# Altium integrated library Altera MAX 3000A.IntLib: 136 symbols (part 3 of 9)
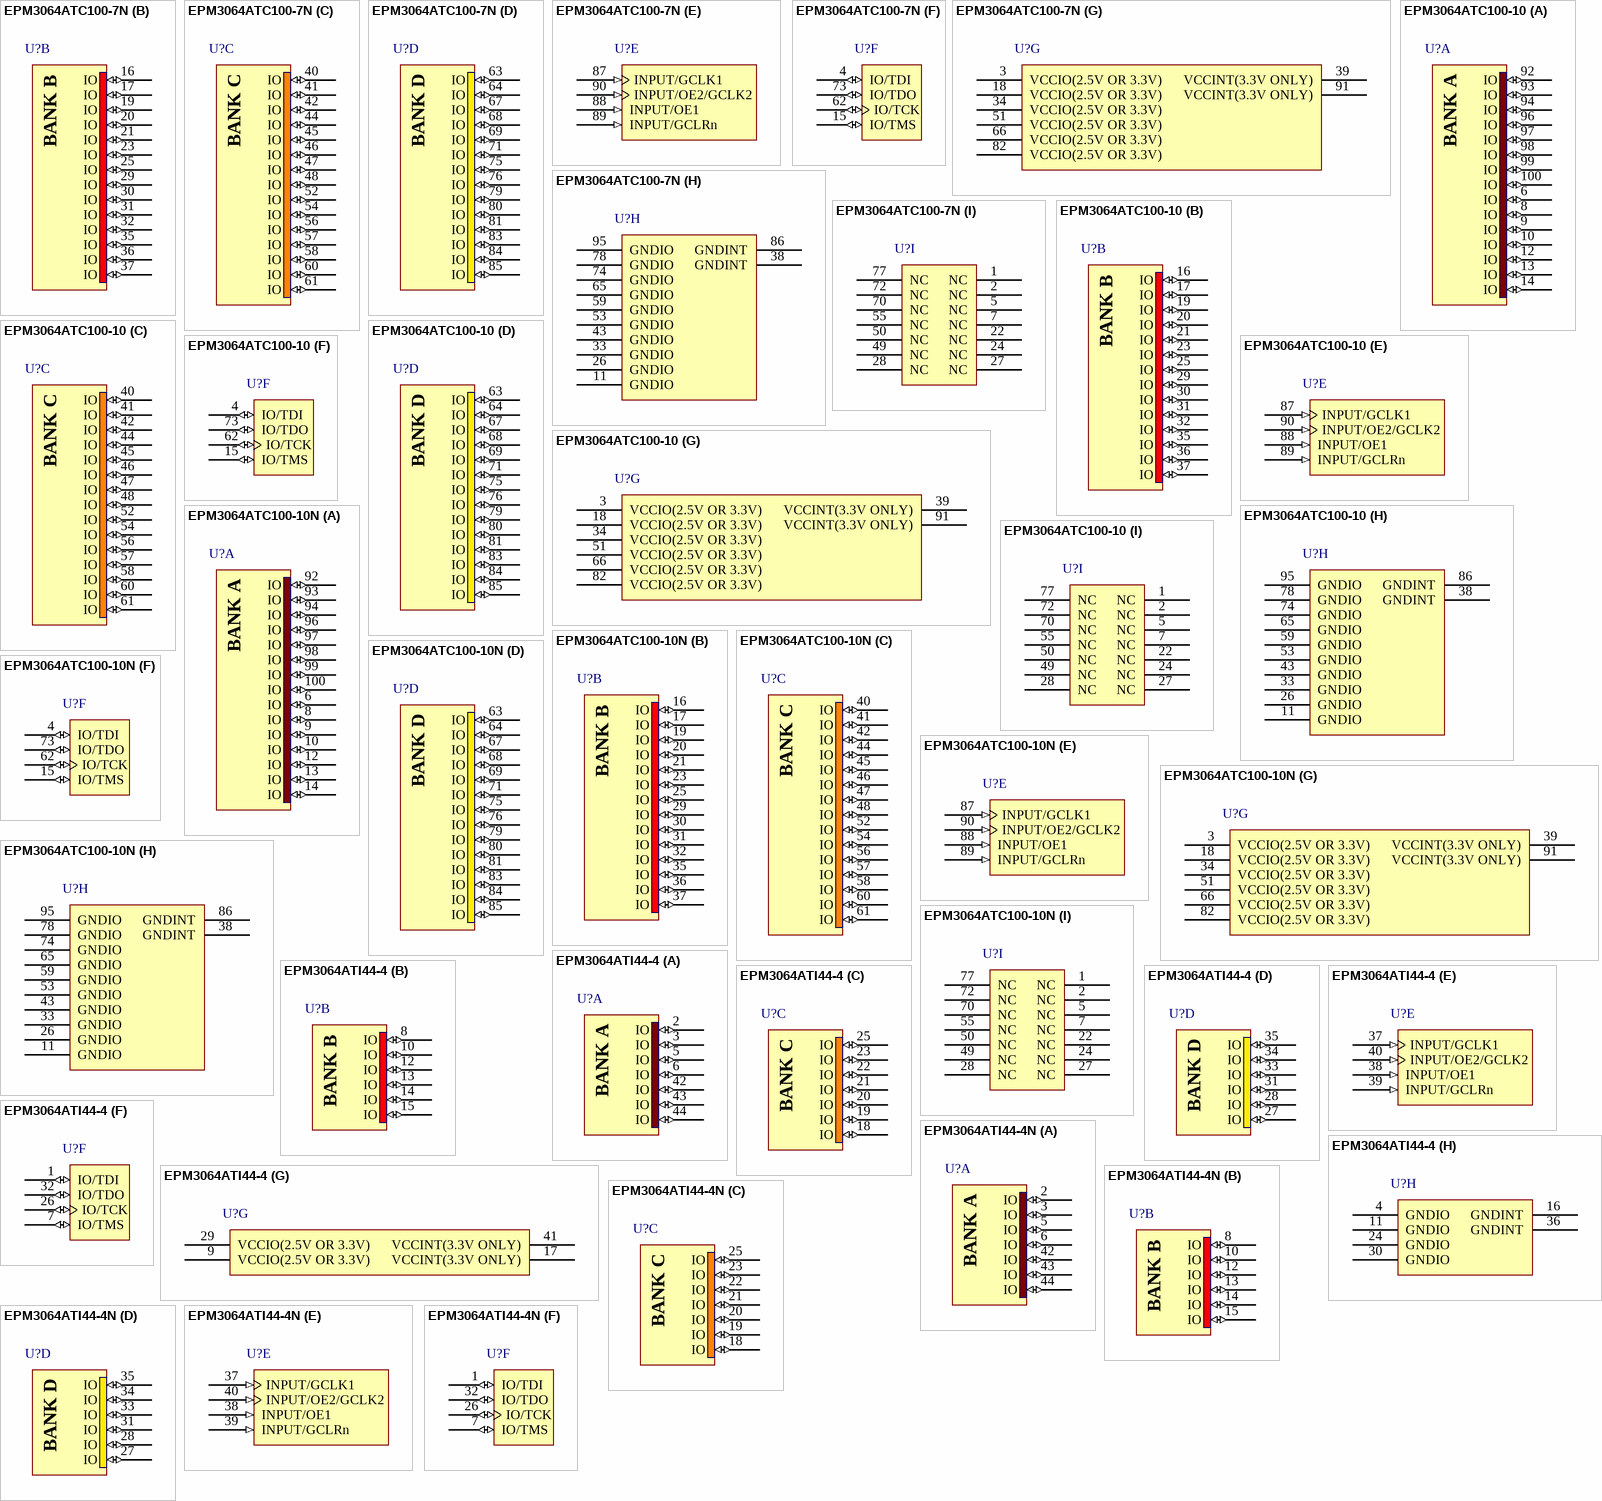
[diagram p49: symbols EPM3064ATC100-7N to EPM3064ATI44-4N]

## EPM3064ATC100-10N
designator U?
MAX 3064A 3.3V CPLD, 66 IOs, 100-Pin Plastic TQFP, Commercial Temperature, Speed Grade 10, Pb-Free; Published: 4-Mar-2005; LatestRevisionDate: 13-Apr-2006; LatestRevisionNote: IPC-7351 Footprint Added.; DatasheetVersion: ver3.5, Jun-2006; PackageVersion: ver14.3, Jul-2006; PackageReference: TQFP100; Publisher: Altium Limited; PackageDescription: 100-Pin Plastic Thin Quad Flat Pack (TQFP100); Code_JEDEC: MS-026-AED; ComponentLink1Description: Manufacturer Link; ComponentLink1URL: http://www.altera.com/products/devices/max3k/m3k-index.html; ComponentLink2Description: Datasheet; ComponentLink2URL: http://www.altera.com/literature/ds/m3000a.pdf; ComponentLink3Description: Packaging Specification; ComponentLink3URL: http://www.altera.com/literature/ds/dspkg.pdf
footprint TQFP100_N (Thin QFP, 100-Leads, Body 14x14mm, Pitch 0.5mm, IPC Medium Density)
footprint TQFP100_L (Thin QFP, 100-Leads, Body 14x14mm, Pitch 0.5mm, IPC High Density)
footprint TQFP100_M (Thin QFP, 100-Leads, Body 14x14mm, Pitch 0.5mm, IPC Low Density)
3D model EPM3064A-TQFP100 (100-Pin Plastic Thin Quad Flat Pack (TQFP100))
signal-integrity model max3ka (MAX 3000A)
part A pins: 6 IO (io), 8 IO (io), 9 IO (io), 10 IO (io), 12 IO (io), 13 IO (io), 14 IO (io), 92 IO (io), 93 IO (io), 94 IO (io), 96 IO (io), 97 IO (io), 98 IO (io), 99 IO (io), 100 IO (io)
part B pins: 16 IO (io), 17 IO (io), 19 IO (io), 20 IO (io), 21 IO (io), 23 IO (io), 25 IO (io), 29 IO (io), 30 IO (io), 31 IO (io), 32 IO (io), 35 IO (io), 36 IO (io), 37 IO (io)
part C pins: 40 IO (io), 41 IO (io), 42 IO (io), 44 IO (io), 45 IO (io), 46 IO (io), 47 IO (io), 48 IO (io), 52 IO (io), 54 IO (io), 56 IO (io), 57 IO (io), 58 IO (io), 60 IO (io), 61 IO (io)
part D pins: 63 IO (io), 64 IO (io), 67 IO (io), 68 IO (io), 69 IO (io), 71 IO (io), 75 IO (io), 76 IO (io), 79 IO (io), 80 IO (io), 81 IO (io), 83 IO (io), 84 IO (io), 85 IO (io)
part E pins: 87 INPUT/GCLK1 (in), 88 INPUT/OE1 (in), 89 INPUT/GCLRn (in), 90 INPUT/OE2/GCLK2 (in)
part F pins: 4 IO/TDI (io), 15 IO/TMS (io), 62 IO/TCK (io), 73 IO/TDO (io)
part G pins: 3 VCCIO(2.5V OR 3.3V) (power), 18 VCCIO(2.5V OR 3.3V) (power), 34 VCCIO(2.5V OR 3.3V) (power), 39 VCCINT(3.3V ONLY) (power), 51 VCCIO(2.5V OR 3.3V) (power), 66 VCCIO(2.5V OR 3.3V) (power), 82 VCCIO(2.5V OR 3.3V) (power), 91 VCCINT(3.3V ONLY) (power)
part H pins: 11 GNDIO (power), 26 GNDIO (power), 33 GNDIO (power), 38 GNDINT (power), 43 GNDIO (power), 53 GNDIO (power), 59 GNDIO (power), 65 GNDIO (power), 74 GNDIO (power), 78 GNDIO (power), 86 GNDINT (power), 95 GNDIO (power)
part I pins: 1 NC, 2 NC, 5 NC, 7 NC, 22 NC, 24 NC, 27 NC, 28 NC, 49 NC, 50 NC, 55 NC, 70 NC, 72 NC, 77 NC
part A text: BANK A
part B text: BANK B
part C text: BANK C
part D text: BANK D

## EPM3064ATI44-4
designator U?
MAX 3064A 3.3V CPLD, 34 IOs, 44-Pin Plastic TFQP, Industrial Temperature, Speed Grade 4; Published: 17-Sep-2003; LatestRevisionDate: 13-Apr-2006; LatestRevisionNote: IPC-7351 Footprint Added.; DatasheetVersion: ver3.5, Jun-2006; PackageVersion: ver14.3, Jul-2006; PackageReference: TQFP44; Publisher: Altium Limited; PackageDescription: 44-Pin Plastic Thin Quad Flat Pack (TFQP44); Code_JEDEC: MS-026-ACB; ComponentLink1Description: Manufacturer Link; ComponentLink1URL: http://www.altera.com/products/devices/max3k/m3k-index.html; ComponentLink2Description: Datasheet; ComponentLink2URL: http://www.altera.com/literature/ds/m3000a.pdf; ComponentLink3Description: Packaging Specification; ComponentLink3URL: http://www.altera.com/literature/ds/dspkg.pdf
footprint TQFP44_N (Thin QFP, 44-Leads, Body 10x10mm, Pitch 0.8mm, IPC Medium Density)
footprint TQFP44_L (Thin QFP, 44-Leads, Body 10x10mm, Pitch 0.8mm, IPC High Density)
footprint TQFP44_M (Thin QFP, 44-Leads, Body 10x10mm, Pitch 0.8mm, IPC Low Density)
3D model EPM3064A-TQFP44 (44-Pin Plastic Thin Quad Flat Pack (TFQP44))
signal-integrity model max3ka (MAX 3000A)
part A pins: 2 IO (io), 3 IO (io), 5 IO (io), 6 IO (io), 42 IO (io), 43 IO (io), 44 IO (io)
part B pins: 8 IO (io), 10 IO (io), 12 IO (io), 13 IO (io), 14 IO (io), 15 IO (io)
part C pins: 18 IO (io), 19 IO (io), 20 IO (io), 21 IO (io), 22 IO (io), 23 IO (io), 25 IO (io)
part D pins: 27 IO (io), 28 IO (io), 31 IO (io), 33 IO (io), 34 IO (io), 35 IO (io)
part E pins: 37 INPUT/GCLK1 (in), 38 INPUT/OE1 (in), 39 INPUT/GCLRn (in), 40 INPUT/OE2/GCLK2 (in)
part F pins: 1 IO/TDI (io), 7 IO/TMS (io), 26 IO/TCK (io), 32 IO/TDO (io)
part G pins: 9 VCCIO(2.5V OR 3.3V) (power), 17 VCCINT(3.3V ONLY) (power), 29 VCCIO(2.5V OR 3.3V) (power), 41 VCCINT(3.3V ONLY) (power)
part H pins: 4 GNDIO (power), 11 GNDIO (power), 16 GNDINT (power), 24 GNDIO (power), 30 GNDIO (power), 36 GNDINT (power)
part A text: BANK A
part B text: BANK B
part C text: BANK C
part D text: BANK D

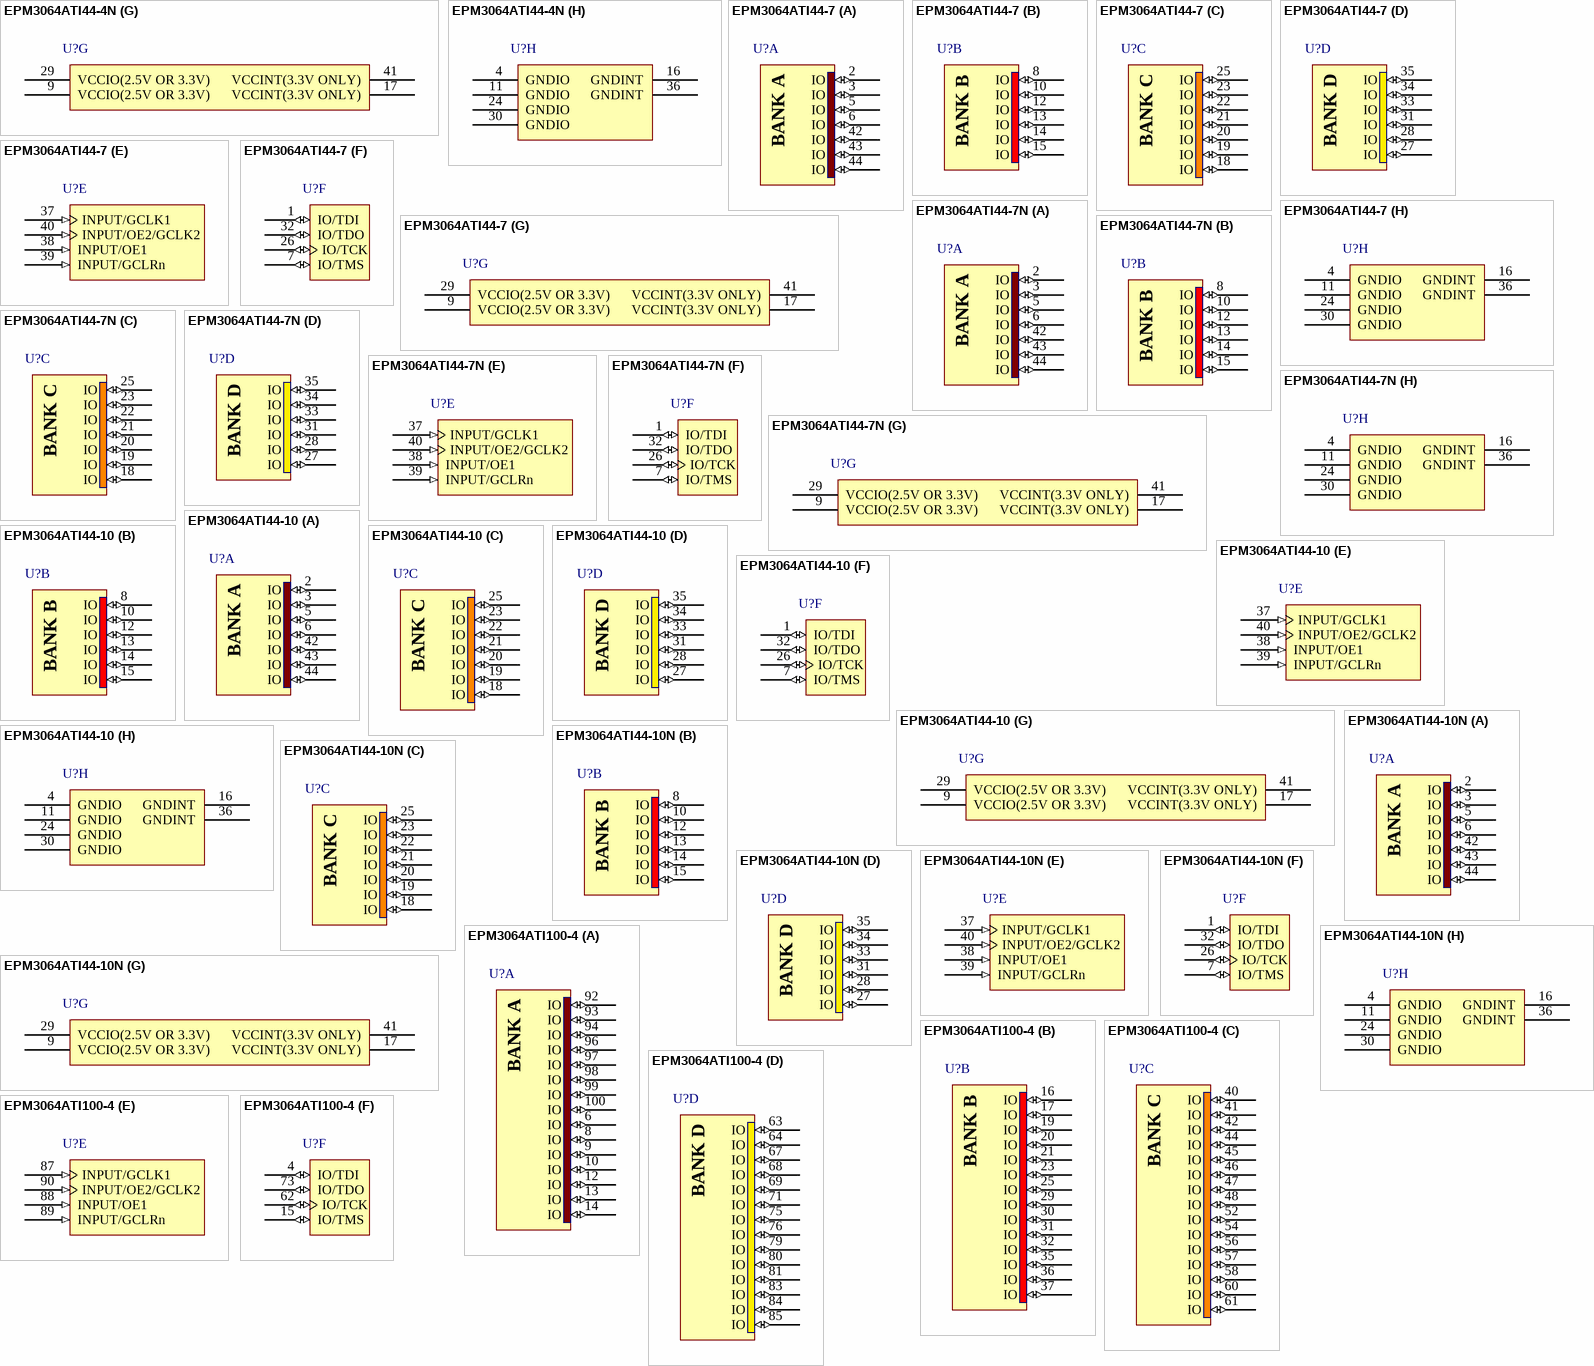
[diagram p9: symbols EPM3064ATI44-4N to EPM3064ATI100-4]

## EPM3064ATI44-4N
designator U?
MAX 3064A 3.3V CPLD, 34 IOs, 44-Pin Plastic TFQP, Industrial Temperature, Speed Grade 4, Pb-Free; Published: 18-Aug-2005; LatestRevisionDate: 13-Apr-2006; LatestRevisionNote: IPC-7351 Footprint Added.; DatasheetVersion: ver3.5, Jun-2006; PackageVersion: ver14.3, Jul-2006; PackageReference: TQFP44; Publisher: Altium Limited; PackageDescription: 44-Pin Plastic Thin Quad Flat Pack (TFQP44); Code_JEDEC: MS-026-ACB; ComponentLink1Description: Manufacturer Link; ComponentLink1URL: http://www.altera.com/products/devices/max3k/m3k-index.html; ComponentLink2Description: Datasheet; ComponentLink2URL: http://www.altera.com/literature/ds/m3000a.pdf; ComponentLink3Description: Packaging Specification; ComponentLink3URL: http://www.altera.com/literature/ds/dspkg.pdf
footprint TQFP44_N (Thin QFP, 44-Leads, Body 10x10mm, Pitch 0.8mm, IPC Medium Density)
footprint TQFP44_L (Thin QFP, 44-Leads, Body 10x10mm, Pitch 0.8mm, IPC High Density)
footprint TQFP44_M (Thin QFP, 44-Leads, Body 10x10mm, Pitch 0.8mm, IPC Low Density)
3D model EPM3064A-TQFP44 (44-Pin Plastic Thin Quad Flat Pack (TFQP44))
signal-integrity model max3ka (MAX 3000A)
part A pins: 2 IO (io), 3 IO (io), 5 IO (io), 6 IO (io), 42 IO (io), 43 IO (io), 44 IO (io)
part B pins: 8 IO (io), 10 IO (io), 12 IO (io), 13 IO (io), 14 IO (io), 15 IO (io)
part C pins: 18 IO (io), 19 IO (io), 20 IO (io), 21 IO (io), 22 IO (io), 23 IO (io), 25 IO (io)
part D pins: 27 IO (io), 28 IO (io), 31 IO (io), 33 IO (io), 34 IO (io), 35 IO (io)
part E pins: 37 INPUT/GCLK1 (in), 38 INPUT/OE1 (in), 39 INPUT/GCLRn (in), 40 INPUT/OE2/GCLK2 (in)
part F pins: 1 IO/TDI (io), 7 IO/TMS (io), 26 IO/TCK (io), 32 IO/TDO (io)
part G pins: 9 VCCIO(2.5V OR 3.3V) (power), 17 VCCINT(3.3V ONLY) (power), 29 VCCIO(2.5V OR 3.3V) (power), 41 VCCINT(3.3V ONLY) (power)
part H pins: 4 GNDIO (power), 11 GNDIO (power), 16 GNDINT (power), 24 GNDIO (power), 30 GNDIO (power), 36 GNDINT (power)
part A text: BANK A
part B text: BANK B
part C text: BANK C
part D text: BANK D

## EPM3064ATI44-7
designator U?
MAX 3064A 3.3V CPLD, 34 IOs, 44-Pin Plastic TFQP, Industrial Temperature, Speed Grade 7; Published: 17-Sep-2003; LatestRevisionDate: 13-Apr-2006; LatestRevisionNote: IPC-7351 Footprint Added.; DatasheetVersion: ver3.5, Jun-2006; PackageVersion: ver14.3, Jul-2006; PackageReference: TQFP44; Publisher: Altium Limited; PackageDescription: 44-Pin Plastic Thin Quad Flat Pack (TFQP44); Code_JEDEC: MS-026-ACB; ComponentLink1Description: Manufacturer Link; ComponentLink1URL: http://www.altera.com/products/devices/max3k/m3k-index.html; ComponentLink2Description: Datasheet; ComponentLink2URL: http://www.altera.com/literature/ds/m3000a.pdf; ComponentLink3Description: Packaging Specification; ComponentLink3URL: http://www.altera.com/literature/ds/dspkg.pdf
footprint TQFP44_N (Thin QFP, 44-Leads, Body 10x10mm, Pitch 0.8mm, IPC Medium Density)
footprint TQFP44_L (Thin QFP, 44-Leads, Body 10x10mm, Pitch 0.8mm, IPC High Density)
footprint TQFP44_M (Thin QFP, 44-Leads, Body 10x10mm, Pitch 0.8mm, IPC Low Density)
3D model EPM3064A-TQFP44 (44-Pin Plastic Thin Quad Flat Pack (TFQP44))
signal-integrity model max3ka (MAX 3000A)
part A pins: 2 IO (io), 3 IO (io), 5 IO (io), 6 IO (io), 42 IO (io), 43 IO (io), 44 IO (io)
part B pins: 8 IO (io), 10 IO (io), 12 IO (io), 13 IO (io), 14 IO (io), 15 IO (io)
part C pins: 18 IO (io), 19 IO (io), 20 IO (io), 21 IO (io), 22 IO (io), 23 IO (io), 25 IO (io)
part D pins: 27 IO (io), 28 IO (io), 31 IO (io), 33 IO (io), 34 IO (io), 35 IO (io)
part E pins: 37 INPUT/GCLK1 (in), 38 INPUT/OE1 (in), 39 INPUT/GCLRn (in), 40 INPUT/OE2/GCLK2 (in)
part F pins: 1 IO/TDI (io), 7 IO/TMS (io), 26 IO/TCK (io), 32 IO/TDO (io)
part G pins: 9 VCCIO(2.5V OR 3.3V) (power), 17 VCCINT(3.3V ONLY) (power), 29 VCCIO(2.5V OR 3.3V) (power), 41 VCCINT(3.3V ONLY) (power)
part H pins: 4 GNDIO (power), 11 GNDIO (power), 16 GNDINT (power), 24 GNDIO (power), 30 GNDIO (power), 36 GNDINT (power)
part A text: BANK A
part B text: BANK B
part C text: BANK C
part D text: BANK D

## EPM3064ATI44-7N
designator U?
MAX 3064A 3.3V CPLD, 34 IOs, 44-Pin Plastic TFQP, Industrial Temperature, Speed Grade 7, Pb-Free; Published: 18-Aug-2005; LatestRevisionDate: 13-Apr-2006; LatestRevisionNote: IPC-7351 Footprint Added.; DatasheetVersion: ver3.5, Jun-2006; PackageVersion: ver14.3, Jul-2006; PackageReference: TQFP44; Publisher: Altium Limited; PackageDescription: 44-Pin Plastic Thin Quad Flat Pack (TFQP44); Code_JEDEC: MS-026-ACB; ComponentLink1Description: Manufacturer Link; ComponentLink1URL: http://www.altera.com/products/devices/max3k/m3k-index.html; ComponentLink2Description: Datasheet; ComponentLink2URL: http://www.altera.com/literature/ds/m3000a.pdf; ComponentLink3Description: Packaging Specification; ComponentLink3URL: http://www.altera.com/literature/ds/dspkg.pdf
footprint TQFP44_N (Thin QFP, 44-Leads, Body 10x10mm, Pitch 0.8mm, IPC Medium Density)
footprint TQFP44_L (Thin QFP, 44-Leads, Body 10x10mm, Pitch 0.8mm, IPC High Density)
footprint TQFP44_M (Thin QFP, 44-Leads, Body 10x10mm, Pitch 0.8mm, IPC Low Density)
3D model EPM3064A-TQFP44 (44-Pin Plastic Thin Quad Flat Pack (TFQP44))
signal-integrity model max3ka (MAX 3000A)
part A pins: 2 IO (io), 3 IO (io), 5 IO (io), 6 IO (io), 42 IO (io), 43 IO (io), 44 IO (io)
part B pins: 8 IO (io), 10 IO (io), 12 IO (io), 13 IO (io), 14 IO (io), 15 IO (io)
part C pins: 18 IO (io), 19 IO (io), 20 IO (io), 21 IO (io), 22 IO (io), 23 IO (io), 25 IO (io)
part D pins: 27 IO (io), 28 IO (io), 31 IO (io), 33 IO (io), 34 IO (io), 35 IO (io)
part E pins: 37 INPUT/GCLK1 (in), 38 INPUT/OE1 (in), 39 INPUT/GCLRn (in), 40 INPUT/OE2/GCLK2 (in)
part F pins: 1 IO/TDI (io), 7 IO/TMS (io), 26 IO/TCK (io), 32 IO/TDO (io)
part G pins: 9 VCCIO(2.5V OR 3.3V) (power), 17 VCCINT(3.3V ONLY) (power), 29 VCCIO(2.5V OR 3.3V) (power), 41 VCCINT(3.3V ONLY) (power)
part H pins: 4 GNDIO (power), 11 GNDIO (power), 16 GNDINT (power), 24 GNDIO (power), 30 GNDIO (power), 36 GNDINT (power)
part A text: BANK A
part B text: BANK B
part C text: BANK C
part D text: BANK D

## EPM3064ATI44-10
designator U?
MAX 3064A 3.3V CPLD, 34 IOs, 44-Pin Plastic TFQP, Industrial Temperature, Speed Grade 10; Published: 17-Sep-2003; LatestRevisionDate: 13-Apr-2006; LatestRevisionNote: IPC-7351 Footprint Added.; DatasheetVersion: ver3.5, Jun-2006; PackageVersion: ver14.3, Jul-2006; PackageReference: TQFP44; Publisher: Altium Limited; PackageDescription: 44-Pin Plastic Thin Quad Flat Pack (TFQP44); Code_JEDEC: MS-026-ACB; ComponentLink1Description: Manufacturer Link; ComponentLink1URL: http://www.altera.com/products/devices/max3k/m3k-index.html; ComponentLink2Description: Datasheet; ComponentLink2URL: http://www.altera.com/literature/ds/m3000a.pdf; ComponentLink3Description: Packaging Specification; ComponentLink3URL: http://www.altera.com/literature/ds/dspkg.pdf
footprint TQFP44_N (Thin QFP, 44-Leads, Body 10x10mm, Pitch 0.8mm, IPC Medium Density)
footprint TQFP44_L (Thin QFP, 44-Leads, Body 10x10mm, Pitch 0.8mm, IPC High Density)
footprint TQFP44_M (Thin QFP, 44-Leads, Body 10x10mm, Pitch 0.8mm, IPC Low Density)
3D model EPM3064A-TQFP44 (44-Pin Plastic Thin Quad Flat Pack (TFQP44))
signal-integrity model max3ka (MAX 3000A)
part A pins: 2 IO (io), 3 IO (io), 5 IO (io), 6 IO (io), 42 IO (io), 43 IO (io), 44 IO (io)
part B pins: 8 IO (io), 10 IO (io), 12 IO (io), 13 IO (io), 14 IO (io), 15 IO (io)
part C pins: 18 IO (io), 19 IO (io), 20 IO (io), 21 IO (io), 22 IO (io), 23 IO (io), 25 IO (io)
part D pins: 27 IO (io), 28 IO (io), 31 IO (io), 33 IO (io), 34 IO (io), 35 IO (io)
part E pins: 37 INPUT/GCLK1 (in), 38 INPUT/OE1 (in), 39 INPUT/GCLRn (in), 40 INPUT/OE2/GCLK2 (in)
part F pins: 1 IO/TDI (io), 7 IO/TMS (io), 26 IO/TCK (io), 32 IO/TDO (io)
part G pins: 9 VCCIO(2.5V OR 3.3V) (power), 17 VCCINT(3.3V ONLY) (power), 29 VCCIO(2.5V OR 3.3V) (power), 41 VCCINT(3.3V ONLY) (power)
part H pins: 4 GNDIO (power), 11 GNDIO (power), 16 GNDINT (power), 24 GNDIO (power), 30 GNDIO (power), 36 GNDINT (power)
part A text: BANK A
part B text: BANK B
part C text: BANK C
part D text: BANK D

## EPM3064ATI44-10N
designator U?
MAX 3064A 3.3V CPLD, 34 IOs, 44-Pin Plastic TFQP, Industrial Temperature, Speed Grade 10, Pb-Free; Published: 18-Aug-2005; LatestRevisionDate: 13-Apr-2006; LatestRevisionNote: IPC-7351 Footprint Added.; DatasheetVersion: ver3.5, Jun-2006; PackageVersion: ver14.3, Jul-2006; PackageReference: TQFP44; Publisher: Altium Limited; PackageDescription: 44-Pin Plastic Thin Quad Flat Pack (TFQP44); Code_JEDEC: MS-026-ACB; ComponentLink1Description: Manufacturer Link; ComponentLink1URL: http://www.altera.com/products/devices/max3k/m3k-index.html; ComponentLink2Description: Datasheet; ComponentLink2URL: http://www.altera.com/literature/ds/m3000a.pdf; ComponentLink3Description: Packaging Specification; ComponentLink3URL: http://www.altera.com/literature/ds/dspkg.pdf
footprint TQFP44_N (Thin QFP, 44-Leads, Body 10x10mm, Pitch 0.8mm, IPC Medium Density)
footprint TQFP44_L (Thin QFP, 44-Leads, Body 10x10mm, Pitch 0.8mm, IPC High Density)
footprint TQFP44_M (Thin QFP, 44-Leads, Body 10x10mm, Pitch 0.8mm, IPC Low Density)
3D model EPM3064A-TQFP44 (44-Pin Plastic Thin Quad Flat Pack (TFQP44))
signal-integrity model max3ka (MAX 3000A)
part A pins: 2 IO (io), 3 IO (io), 5 IO (io), 6 IO (io), 42 IO (io), 43 IO (io), 44 IO (io)
part B pins: 8 IO (io), 10 IO (io), 12 IO (io), 13 IO (io), 14 IO (io), 15 IO (io)
part C pins: 18 IO (io), 19 IO (io), 20 IO (io), 21 IO (io), 22 IO (io), 23 IO (io), 25 IO (io)
part D pins: 27 IO (io), 28 IO (io), 31 IO (io), 33 IO (io), 34 IO (io), 35 IO (io)
part E pins: 37 INPUT/GCLK1 (in), 38 INPUT/OE1 (in), 39 INPUT/GCLRn (in), 40 INPUT/OE2/GCLK2 (in)
part F pins: 1 IO/TDI (io), 7 IO/TMS (io), 26 IO/TCK (io), 32 IO/TDO (io)
part G pins: 9 VCCIO(2.5V OR 3.3V) (power), 17 VCCINT(3.3V ONLY) (power), 29 VCCIO(2.5V OR 3.3V) (power), 41 VCCINT(3.3V ONLY) (power)
part H pins: 4 GNDIO (power), 11 GNDIO (power), 16 GNDINT (power), 24 GNDIO (power), 30 GNDIO (power), 36 GNDINT (power)
part A text: BANK A
part B text: BANK B
part C text: BANK C
part D text: BANK D

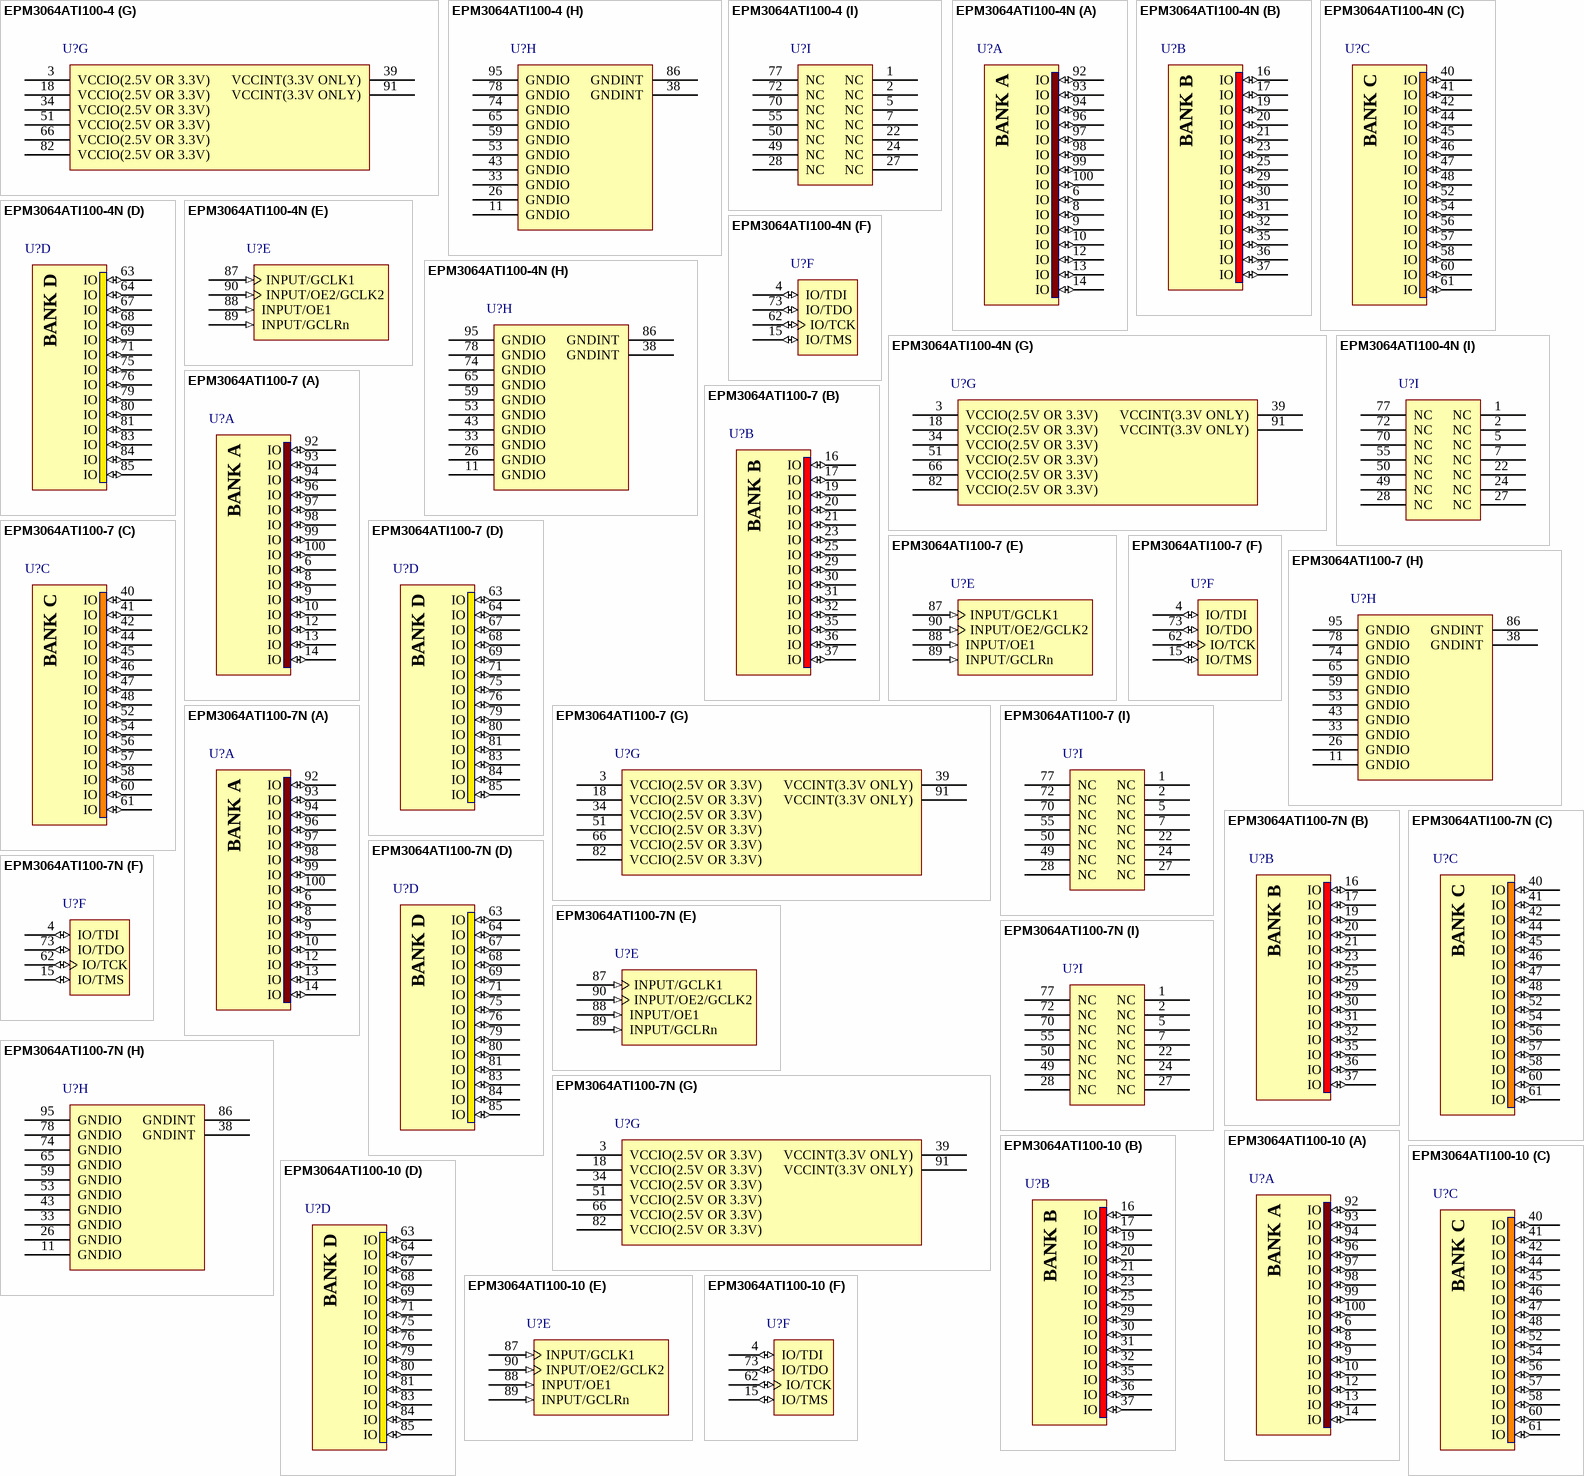
[diagram p10: symbols EPM3064ATI100-4 to EPM3064ATI100-10]

## EPM3064ATI100-4
designator U?
MAX 3064A 3.3V CPLD, 66 IOs, 100-Pin Plastic TQFP, Industrial Temperature, Speed Grade 4; Published: 17-Sep-2003; LatestRevisionDate: 13-Apr-2006; LatestRevisionNote: IPC-7351 Footprint Added.; DatasheetVersion: ver3.5, Jun-2006; PackageVersion: ver14.3, Jul-2006; PackageReference: TQFP100; Publisher: Altium Limited; PackageDescription: 100-Pin Plastic Thin Quad Flat Pack (TQFP100); Code_JEDEC: MS-026-AED; ComponentLink1Description: Manufacturer Link; ComponentLink1URL: http://www.altera.com/products/devices/max3k/m3k-index.html; ComponentLink2Description: Datasheet; ComponentLink2URL: http://www.altera.com/literature/ds/m3000a.pdf; ComponentLink3Description: Packaging Specification; ComponentLink3URL: http://www.altera.com/literature/ds/dspkg.pdf
footprint TQFP100_N (Thin QFP, 100-Leads, Body 14x14mm, Pitch 0.5mm, IPC Medium Density)
footprint TQFP100_L (Thin QFP, 100-Leads, Body 14x14mm, Pitch 0.5mm, IPC High Density)
footprint TQFP100_M (Thin QFP, 100-Leads, Body 14x14mm, Pitch 0.5mm, IPC Low Density)
3D model EPM3064A-TQFP100 (100-Pin Plastic Thin Quad Flat Pack (TQFP100))
signal-integrity model max3ka (MAX 3000A)
part A pins: 6 IO (io), 8 IO (io), 9 IO (io), 10 IO (io), 12 IO (io), 13 IO (io), 14 IO (io), 92 IO (io), 93 IO (io), 94 IO (io), 96 IO (io), 97 IO (io), 98 IO (io), 99 IO (io), 100 IO (io)
part B pins: 16 IO (io), 17 IO (io), 19 IO (io), 20 IO (io), 21 IO (io), 23 IO (io), 25 IO (io), 29 IO (io), 30 IO (io), 31 IO (io), 32 IO (io), 35 IO (io), 36 IO (io), 37 IO (io)
part C pins: 40 IO (io), 41 IO (io), 42 IO (io), 44 IO (io), 45 IO (io), 46 IO (io), 47 IO (io), 48 IO (io), 52 IO (io), 54 IO (io), 56 IO (io), 57 IO (io), 58 IO (io), 60 IO (io), 61 IO (io)
part D pins: 63 IO (io), 64 IO (io), 67 IO (io), 68 IO (io), 69 IO (io), 71 IO (io), 75 IO (io), 76 IO (io), 79 IO (io), 80 IO (io), 81 IO (io), 83 IO (io), 84 IO (io), 85 IO (io)
part E pins: 87 INPUT/GCLK1 (in), 88 INPUT/OE1 (in), 89 INPUT/GCLRn (in), 90 INPUT/OE2/GCLK2 (in)
part F pins: 4 IO/TDI (io), 15 IO/TMS (io), 62 IO/TCK (io), 73 IO/TDO (io)
part G pins: 3 VCCIO(2.5V OR 3.3V) (power), 18 VCCIO(2.5V OR 3.3V) (power), 34 VCCIO(2.5V OR 3.3V) (power), 39 VCCINT(3.3V ONLY) (power), 51 VCCIO(2.5V OR 3.3V) (power), 66 VCCIO(2.5V OR 3.3V) (power), 82 VCCIO(2.5V OR 3.3V) (power), 91 VCCINT(3.3V ONLY) (power)
part H pins: 11 GNDIO (power), 26 GNDIO (power), 33 GNDIO (power), 38 GNDINT (power), 43 GNDIO (power), 53 GNDIO (power), 59 GNDIO (power), 65 GNDIO (power), 74 GNDIO (power), 78 GNDIO (power), 86 GNDINT (power), 95 GNDIO (power)
part I pins: 1 NC, 2 NC, 5 NC, 7 NC, 22 NC, 24 NC, 27 NC, 28 NC, 49 NC, 50 NC, 55 NC, 70 NC, 72 NC, 77 NC
part A text: BANK A
part B text: BANK B
part C text: BANK C
part D text: BANK D

## EPM3064ATI100-4N
designator U?
MAX 3064A 3.3V CPLD, 66 IOs, 100-Pin Plastic TQFP, Industrial Temperature, Speed Grade 4, Pb-Free; Published: 18-Aug-2005; LatestRevisionDate: 13-Apr-2006; LatestRevisionNote: IPC-7351 Footprint Added.; DatasheetVersion: ver3.5, Jun-2006; PackageVersion: ver14.3, Jul-2006; PackageReference: TQFP100; Publisher: Altium Limited; PackageDescription: 100-Pin Plastic Thin Quad Flat Pack (TQFP100); Code_JEDEC: MS-026-AED; ComponentLink1Description: Manufacturer Link; ComponentLink1URL: http://www.altera.com/products/devices/max3k/m3k-index.html; ComponentLink2Description: Datasheet; ComponentLink2URL: http://www.altera.com/literature/ds/m3000a.pdf; ComponentLink3Description: Packaging Specification; ComponentLink3URL: http://www.altera.com/literature/ds/dspkg.pdf
footprint TQFP100_N (Thin QFP, 100-Leads, Body 14x14mm, Pitch 0.5mm, IPC Medium Density)
footprint TQFP100_L (Thin QFP, 100-Leads, Body 14x14mm, Pitch 0.5mm, IPC High Density)
footprint TQFP100_M (Thin QFP, 100-Leads, Body 14x14mm, Pitch 0.5mm, IPC Low Density)
3D model EPM3064A-TQFP100 (100-Pin Plastic Thin Quad Flat Pack (TQFP100))
signal-integrity model max3ka (MAX 3000A)
part A pins: 6 IO (io), 8 IO (io), 9 IO (io), 10 IO (io), 12 IO (io), 13 IO (io), 14 IO (io), 92 IO (io), 93 IO (io), 94 IO (io), 96 IO (io), 97 IO (io), 98 IO (io), 99 IO (io), 100 IO (io)
part B pins: 16 IO (io), 17 IO (io), 19 IO (io), 20 IO (io), 21 IO (io), 23 IO (io), 25 IO (io), 29 IO (io), 30 IO (io), 31 IO (io), 32 IO (io), 35 IO (io), 36 IO (io), 37 IO (io)
part C pins: 40 IO (io), 41 IO (io), 42 IO (io), 44 IO (io), 45 IO (io), 46 IO (io), 47 IO (io), 48 IO (io), 52 IO (io), 54 IO (io), 56 IO (io), 57 IO (io), 58 IO (io), 60 IO (io), 61 IO (io)
part D pins: 63 IO (io), 64 IO (io), 67 IO (io), 68 IO (io), 69 IO (io), 71 IO (io), 75 IO (io), 76 IO (io), 79 IO (io), 80 IO (io), 81 IO (io), 83 IO (io), 84 IO (io), 85 IO (io)
part E pins: 87 INPUT/GCLK1 (in), 88 INPUT/OE1 (in), 89 INPUT/GCLRn (in), 90 INPUT/OE2/GCLK2 (in)
part F pins: 4 IO/TDI (io), 15 IO/TMS (io), 62 IO/TCK (io), 73 IO/TDO (io)
part G pins: 3 VCCIO(2.5V OR 3.3V) (power), 18 VCCIO(2.5V OR 3.3V) (power), 34 VCCIO(2.5V OR 3.3V) (power), 39 VCCINT(3.3V ONLY) (power), 51 VCCIO(2.5V OR 3.3V) (power), 66 VCCIO(2.5V OR 3.3V) (power), 82 VCCIO(2.5V OR 3.3V) (power), 91 VCCINT(3.3V ONLY) (power)
part H pins: 11 GNDIO (power), 26 GNDIO (power), 33 GNDIO (power), 38 GNDINT (power), 43 GNDIO (power), 53 GNDIO (power), 59 GNDIO (power), 65 GNDIO (power), 74 GNDIO (power), 78 GNDIO (power), 86 GNDINT (power), 95 GNDIO (power)
part I pins: 1 NC, 2 NC, 5 NC, 7 NC, 22 NC, 24 NC, 27 NC, 28 NC, 49 NC, 50 NC, 55 NC, 70 NC, 72 NC, 77 NC
part A text: BANK A
part B text: BANK B
part C text: BANK C
part D text: BANK D

## EPM3064ATI100-7
designator U?
MAX 3064A 3.3V CPLD, 66 IOs, 100-Pin Plastic TQFP, Industrial Temperature, Speed Grade 7; Published: 17-Sep-2003; LatestRevisionDate: 13-Apr-2006; LatestRevisionNote: IPC-7351 Footprint Added.; DatasheetVersion: ver3.5, Jun-2006; PackageVersion: ver14.3, Jul-2006; PackageReference: TQFP100; Publisher: Altium Limited; PackageDescription: 100-Pin Plastic Thin Quad Flat Pack (TQFP100); Code_JEDEC: MS-026-AED; ComponentLink1Description: Manufacturer Link; ComponentLink1URL: http://www.altera.com/products/devices/max3k/m3k-index.html; ComponentLink2Description: Datasheet; ComponentLink2URL: http://www.altera.com/literature/ds/m3000a.pdf; ComponentLink3Description: Packaging Specification; ComponentLink3URL: http://www.altera.com/literature/ds/dspkg.pdf
footprint TQFP100_N (Thin QFP, 100-Leads, Body 14x14mm, Pitch 0.5mm, IPC Medium Density)
footprint TQFP100_L (Thin QFP, 100-Leads, Body 14x14mm, Pitch 0.5mm, IPC High Density)
footprint TQFP100_M (Thin QFP, 100-Leads, Body 14x14mm, Pitch 0.5mm, IPC Low Density)
3D model EPM3064A-TQFP100 (100-Pin Plastic Thin Quad Flat Pack (TQFP100))
signal-integrity model max3ka (MAX 3000A)
part A pins: 6 IO (io), 8 IO (io), 9 IO (io), 10 IO (io), 12 IO (io), 13 IO (io), 14 IO (io), 92 IO (io), 93 IO (io), 94 IO (io), 96 IO (io), 97 IO (io), 98 IO (io), 99 IO (io), 100 IO (io)
part B pins: 16 IO (io), 17 IO (io), 19 IO (io), 20 IO (io), 21 IO (io), 23 IO (io), 25 IO (io), 29 IO (io), 30 IO (io), 31 IO (io), 32 IO (io), 35 IO (io), 36 IO (io), 37 IO (io)
part C pins: 40 IO (io), 41 IO (io), 42 IO (io), 44 IO (io), 45 IO (io), 46 IO (io), 47 IO (io), 48 IO (io), 52 IO (io), 54 IO (io), 56 IO (io), 57 IO (io), 58 IO (io), 60 IO (io), 61 IO (io)
part D pins: 63 IO (io), 64 IO (io), 67 IO (io), 68 IO (io), 69 IO (io), 71 IO (io), 75 IO (io), 76 IO (io), 79 IO (io), 80 IO (io), 81 IO (io), 83 IO (io), 84 IO (io), 85 IO (io)
part E pins: 87 INPUT/GCLK1 (in), 88 INPUT/OE1 (in), 89 INPUT/GCLRn (in), 90 INPUT/OE2/GCLK2 (in)
part F pins: 4 IO/TDI (io), 15 IO/TMS (io), 62 IO/TCK (io), 73 IO/TDO (io)
part G pins: 3 VCCIO(2.5V OR 3.3V) (power), 18 VCCIO(2.5V OR 3.3V) (power), 34 VCCIO(2.5V OR 3.3V) (power), 39 VCCINT(3.3V ONLY) (power), 51 VCCIO(2.5V OR 3.3V) (power), 66 VCCIO(2.5V OR 3.3V) (power), 82 VCCIO(2.5V OR 3.3V) (power), 91 VCCINT(3.3V ONLY) (power)
part H pins: 11 GNDIO (power), 26 GNDIO (power), 33 GNDIO (power), 38 GNDINT (power), 43 GNDIO (power), 53 GNDIO (power), 59 GNDIO (power), 65 GNDIO (power), 74 GNDIO (power), 78 GNDIO (power), 86 GNDINT (power), 95 GNDIO (power)
part I pins: 1 NC, 2 NC, 5 NC, 7 NC, 22 NC, 24 NC, 27 NC, 28 NC, 49 NC, 50 NC, 55 NC, 70 NC, 72 NC, 77 NC
part A text: BANK A
part B text: BANK B
part C text: BANK C
part D text: BANK D

## EPM3064ATI100-7N
designator U?
MAX 3064A 3.3V CPLD, 66 IOs, 100-Pin Plastic TQFP, Industrial Temperature, Speed Grade 7, Pb-Free; Published: 18-Aug-2005; LatestRevisionDate: 13-Apr-2006; LatestRevisionNote: IPC-7351 Footprint Added.; DatasheetVersion: ver3.5, Jun-2006; PackageVersion: ver14.3, Jul-2006; PackageReference: TQFP100; Publisher: Altium Limited; PackageDescription: 100-Pin Plastic Thin Quad Flat Pack (TQFP100); Code_JEDEC: MS-026-AED; ComponentLink1Description: Manufacturer Link; ComponentLink1URL: http://www.altera.com/products/devices/max3k/m3k-index.html; ComponentLink2Description: Datasheet; ComponentLink2URL: http://www.altera.com/literature/ds/m3000a.pdf; ComponentLink3Description: Packaging Specification; ComponentLink3URL: http://www.altera.com/literature/ds/dspkg.pdf
footprint TQFP100_N (Thin QFP, 100-Leads, Body 14x14mm, Pitch 0.5mm, IPC Medium Density)
footprint TQFP100_L (Thin QFP, 100-Leads, Body 14x14mm, Pitch 0.5mm, IPC High Density)
footprint TQFP100_M (Thin QFP, 100-Leads, Body 14x14mm, Pitch 0.5mm, IPC Low Density)
3D model EPM3064A-TQFP100 (100-Pin Plastic Thin Quad Flat Pack (TQFP100))
signal-integrity model max3ka (MAX 3000A)
part A pins: 6 IO (io), 8 IO (io), 9 IO (io), 10 IO (io), 12 IO (io), 13 IO (io), 14 IO (io), 92 IO (io), 93 IO (io), 94 IO (io), 96 IO (io), 97 IO (io), 98 IO (io), 99 IO (io), 100 IO (io)
part B pins: 16 IO (io), 17 IO (io), 19 IO (io), 20 IO (io), 21 IO (io), 23 IO (io), 25 IO (io), 29 IO (io), 30 IO (io), 31 IO (io), 32 IO (io), 35 IO (io), 36 IO (io), 37 IO (io)
part C pins: 40 IO (io), 41 IO (io), 42 IO (io), 44 IO (io), 45 IO (io), 46 IO (io), 47 IO (io), 48 IO (io), 52 IO (io), 54 IO (io), 56 IO (io), 57 IO (io), 58 IO (io), 60 IO (io), 61 IO (io)
part D pins: 63 IO (io), 64 IO (io), 67 IO (io), 68 IO (io), 69 IO (io), 71 IO (io), 75 IO (io), 76 IO (io), 79 IO (io), 80 IO (io), 81 IO (io), 83 IO (io), 84 IO (io), 85 IO (io)
part E pins: 87 INPUT/GCLK1 (in), 88 INPUT/OE1 (in), 89 INPUT/GCLRn (in), 90 INPUT/OE2/GCLK2 (in)
part F pins: 4 IO/TDI (io), 15 IO/TMS (io), 62 IO/TCK (io), 73 IO/TDO (io)
part G pins: 3 VCCIO(2.5V OR 3.3V) (power), 18 VCCIO(2.5V OR 3.3V) (power), 34 VCCIO(2.5V OR 3.3V) (power), 39 VCCINT(3.3V ONLY) (power), 51 VCCIO(2.5V OR 3.3V) (power), 66 VCCIO(2.5V OR 3.3V) (power), 82 VCCIO(2.5V OR 3.3V) (power), 91 VCCINT(3.3V ONLY) (power)
part H pins: 11 GNDIO (power), 26 GNDIO (power), 33 GNDIO (power), 38 GNDINT (power), 43 GNDIO (power), 53 GNDIO (power), 59 GNDIO (power), 65 GNDIO (power), 74 GNDIO (power), 78 GNDIO (power), 86 GNDINT (power), 95 GNDIO (power)
part I pins: 1 NC, 2 NC, 5 NC, 7 NC, 22 NC, 24 NC, 27 NC, 28 NC, 49 NC, 50 NC, 55 NC, 70 NC, 72 NC, 77 NC
part A text: BANK A
part B text: BANK B
part C text: BANK C
part D text: BANK D

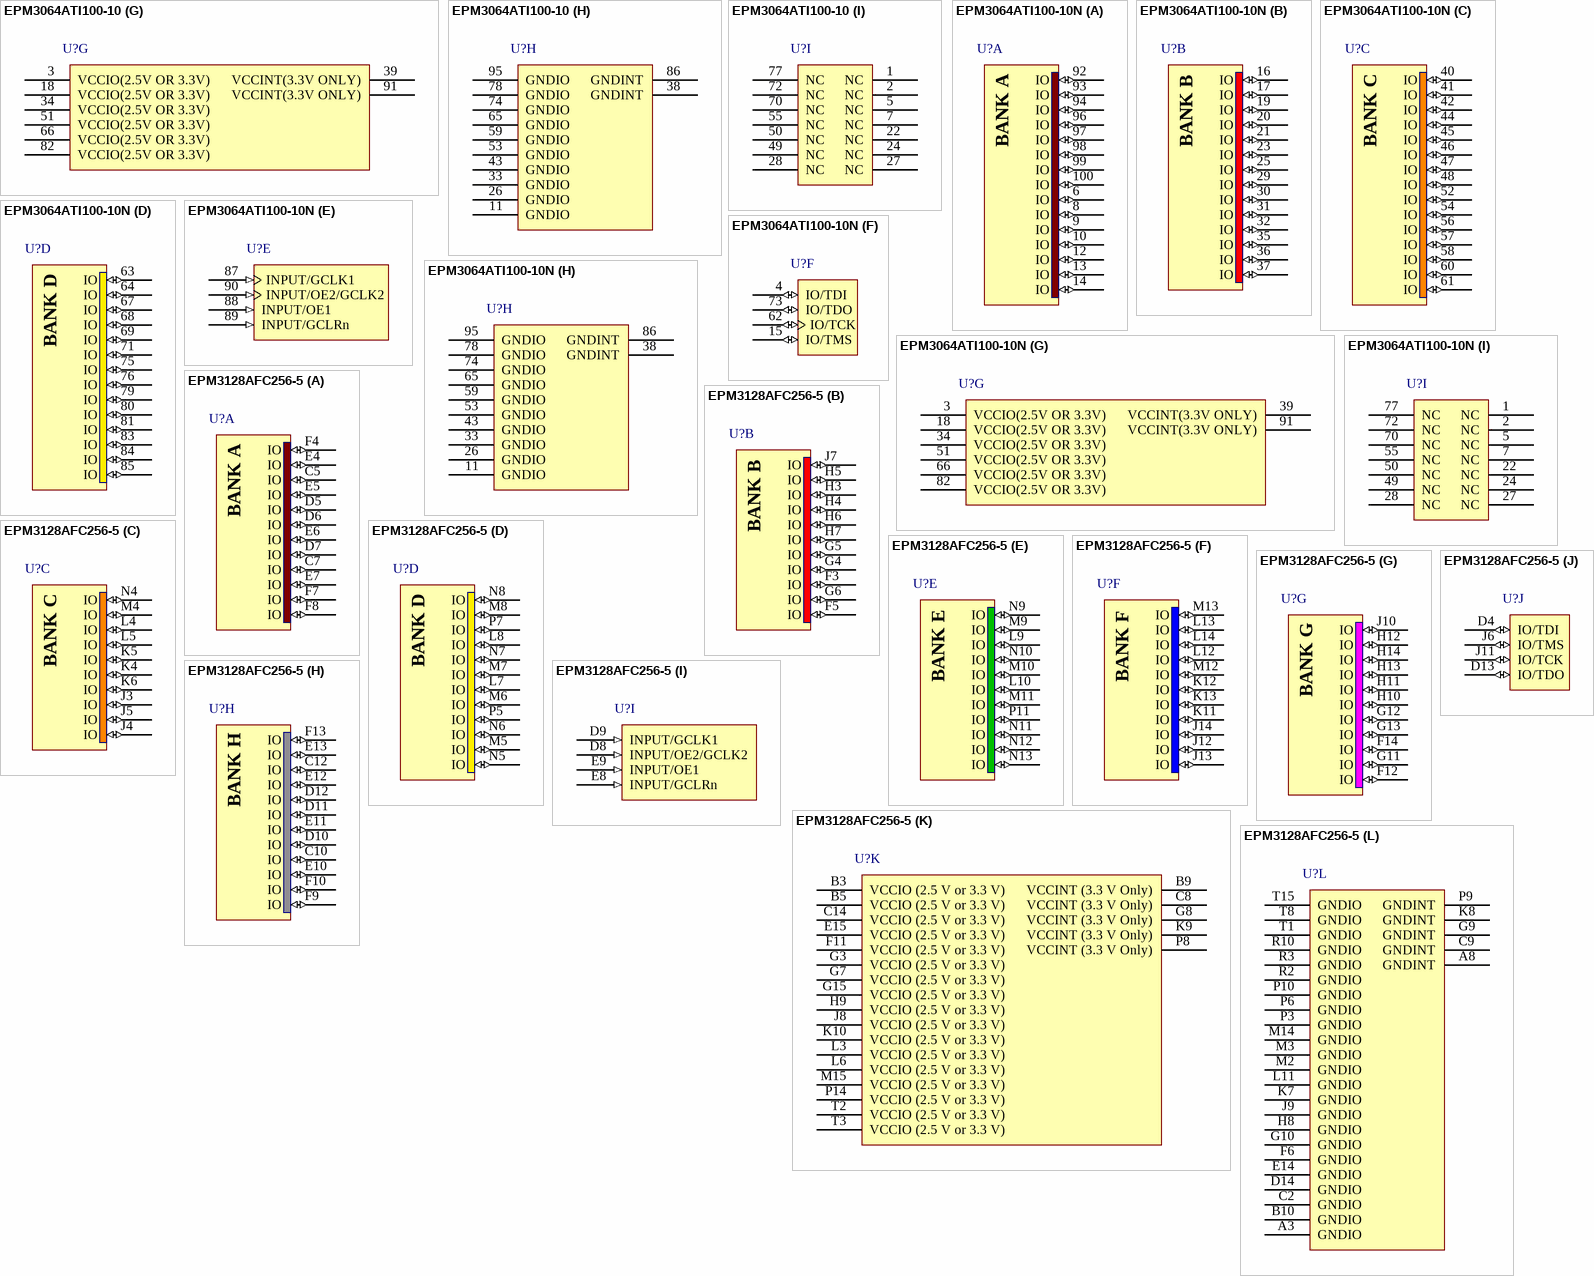
[diagram p11: symbols EPM3064ATI100-10 to EPM3128AFC256-5]

## EPM3064ATI100-10
designator U?
MAX 3064A 3.3V CPLD, 66 IOs, 100-Pin Plastic TQFP, Industrial Temperature, Speed Grade 10; Published: 17-Sep-2003; LatestRevisionDate: 13-Apr-2006; LatestRevisionNote: IPC-7351 Footprint Added.; DatasheetVersion: ver3.5, Jun-2006; PackageVersion: ver14.3, Jul-2006; PackageReference: TQFP100; Publisher: Altium Limited; PackageDescription: 100-Pin Plastic Thin Quad Flat Pack (TQFP100); Code_JEDEC: MS-026-AED; ComponentLink1Description: Manufacturer Link; ComponentLink1URL: http://www.altera.com/products/devices/max3k/m3k-index.html; ComponentLink2Description: Datasheet; ComponentLink2URL: http://www.altera.com/literature/ds/m3000a.pdf; ComponentLink3Description: Packaging Specification; ComponentLink3URL: http://www.altera.com/literature/ds/dspkg.pdf
footprint TQFP100_N (Thin QFP, 100-Leads, Body 14x14mm, Pitch 0.5mm, IPC Medium Density)
footprint TQFP100_L (Thin QFP, 100-Leads, Body 14x14mm, Pitch 0.5mm, IPC High Density)
footprint TQFP100_M (Thin QFP, 100-Leads, Body 14x14mm, Pitch 0.5mm, IPC Low Density)
3D model EPM3064A-TQFP100 (100-Pin Plastic Thin Quad Flat Pack (TQFP100))
signal-integrity model max3ka (MAX 3000A)
part A pins: 6 IO (io), 8 IO (io), 9 IO (io), 10 IO (io), 12 IO (io), 13 IO (io), 14 IO (io), 92 IO (io), 93 IO (io), 94 IO (io), 96 IO (io), 97 IO (io), 98 IO (io), 99 IO (io), 100 IO (io)
part B pins: 16 IO (io), 17 IO (io), 19 IO (io), 20 IO (io), 21 IO (io), 23 IO (io), 25 IO (io), 29 IO (io), 30 IO (io), 31 IO (io), 32 IO (io), 35 IO (io), 36 IO (io), 37 IO (io)
part C pins: 40 IO (io), 41 IO (io), 42 IO (io), 44 IO (io), 45 IO (io), 46 IO (io), 47 IO (io), 48 IO (io), 52 IO (io), 54 IO (io), 56 IO (io), 57 IO (io), 58 IO (io), 60 IO (io), 61 IO (io)
part D pins: 63 IO (io), 64 IO (io), 67 IO (io), 68 IO (io), 69 IO (io), 71 IO (io), 75 IO (io), 76 IO (io), 79 IO (io), 80 IO (io), 81 IO (io), 83 IO (io), 84 IO (io), 85 IO (io)
part E pins: 87 INPUT/GCLK1 (in), 88 INPUT/OE1 (in), 89 INPUT/GCLRn (in), 90 INPUT/OE2/GCLK2 (in)
part F pins: 4 IO/TDI (io), 15 IO/TMS (io), 62 IO/TCK (io), 73 IO/TDO (io)
part G pins: 3 VCCIO(2.5V OR 3.3V) (power), 18 VCCIO(2.5V OR 3.3V) (power), 34 VCCIO(2.5V OR 3.3V) (power), 39 VCCINT(3.3V ONLY) (power), 51 VCCIO(2.5V OR 3.3V) (power), 66 VCCIO(2.5V OR 3.3V) (power), 82 VCCIO(2.5V OR 3.3V) (power), 91 VCCINT(3.3V ONLY) (power)
part H pins: 11 GNDIO (power), 26 GNDIO (power), 33 GNDIO (power), 38 GNDINT (power), 43 GNDIO (power), 53 GNDIO (power), 59 GNDIO (power), 65 GNDIO (power), 74 GNDIO (power), 78 GNDIO (power), 86 GNDINT (power), 95 GNDIO (power)
part I pins: 1 NC, 2 NC, 5 NC, 7 NC, 22 NC, 24 NC, 27 NC, 28 NC, 49 NC, 50 NC, 55 NC, 70 NC, 72 NC, 77 NC
part A text: BANK A
part B text: BANK B
part C text: BANK C
part D text: BANK D

## EPM3064ATI100-10N
designator U?
MAX 3064A 3.3V CPLD, 66 IOs, 100-Pin Plastic TQFP, Industrial Temperature, Speed Grade 10, Pb-Free; Published: 18-Aug-2005; LatestRevisionDate: 13-Apr-2006; LatestRevisionNote: IPC-7351 Footprint Added.; DatasheetVersion: ver3.5, Jun-2006; PackageVersion: ver14.3, Jul-2006; PackageReference: TQFP100; Publisher: Altium Limited; PackageDescription: 100-Pin Plastic Thin Quad Flat Pack (TQFP100); Code_JEDEC: MS-026-AED; ComponentLink1Description: Manufacturer Link; ComponentLink1URL: http://www.altera.com/products/devices/max3k/m3k-index.html; ComponentLink2Description: Datasheet; ComponentLink2URL: http://www.altera.com/literature/ds/m3000a.pdf; ComponentLink3Description: Packaging Specification; ComponentLink3URL: http://www.altera.com/literature/ds/dspkg.pdf
footprint TQFP100_N (Thin QFP, 100-Leads, Body 14x14mm, Pitch 0.5mm, IPC Medium Density)
footprint TQFP100_L (Thin QFP, 100-Leads, Body 14x14mm, Pitch 0.5mm, IPC High Density)
footprint TQFP100_M (Thin QFP, 100-Leads, Body 14x14mm, Pitch 0.5mm, IPC Low Density)
3D model EPM3064A-TQFP100 (100-Pin Plastic Thin Quad Flat Pack (TQFP100))
signal-integrity model max3ka (MAX 3000A)
part A pins: 6 IO (io), 8 IO (io), 9 IO (io), 10 IO (io), 12 IO (io), 13 IO (io), 14 IO (io), 92 IO (io), 93 IO (io), 94 IO (io), 96 IO (io), 97 IO (io), 98 IO (io), 99 IO (io), 100 IO (io)
part B pins: 16 IO (io), 17 IO (io), 19 IO (io), 20 IO (io), 21 IO (io), 23 IO (io), 25 IO (io), 29 IO (io), 30 IO (io), 31 IO (io), 32 IO (io), 35 IO (io), 36 IO (io), 37 IO (io)
part C pins: 40 IO (io), 41 IO (io), 42 IO (io), 44 IO (io), 45 IO (io), 46 IO (io), 47 IO (io), 48 IO (io), 52 IO (io), 54 IO (io), 56 IO (io), 57 IO (io), 58 IO (io), 60 IO (io), 61 IO (io)
part D pins: 63 IO (io), 64 IO (io), 67 IO (io), 68 IO (io), 69 IO (io), 71 IO (io), 75 IO (io), 76 IO (io), 79 IO (io), 80 IO (io), 81 IO (io), 83 IO (io), 84 IO (io), 85 IO (io)
part E pins: 87 INPUT/GCLK1 (in), 88 INPUT/OE1 (in), 89 INPUT/GCLRn (in), 90 INPUT/OE2/GCLK2 (in)
part F pins: 4 IO/TDI (io), 15 IO/TMS (io), 62 IO/TCK (io), 73 IO/TDO (io)
part G pins: 3 VCCIO(2.5V OR 3.3V) (power), 18 VCCIO(2.5V OR 3.3V) (power), 34 VCCIO(2.5V OR 3.3V) (power), 39 VCCINT(3.3V ONLY) (power), 51 VCCIO(2.5V OR 3.3V) (power), 66 VCCIO(2.5V OR 3.3V) (power), 82 VCCIO(2.5V OR 3.3V) (power), 91 VCCINT(3.3V ONLY) (power)
part H pins: 11 GNDIO (power), 26 GNDIO (power), 33 GNDIO (power), 38 GNDINT (power), 43 GNDIO (power), 53 GNDIO (power), 59 GNDIO (power), 65 GNDIO (power), 74 GNDIO (power), 78 GNDIO (power), 86 GNDINT (power), 95 GNDIO (power)
part I pins: 1 NC, 2 NC, 5 NC, 7 NC, 22 NC, 24 NC, 27 NC, 28 NC, 49 NC, 50 NC, 55 NC, 70 NC, 72 NC, 77 NC
part A text: BANK A
part B text: BANK B
part C text: BANK C
part D text: BANK D

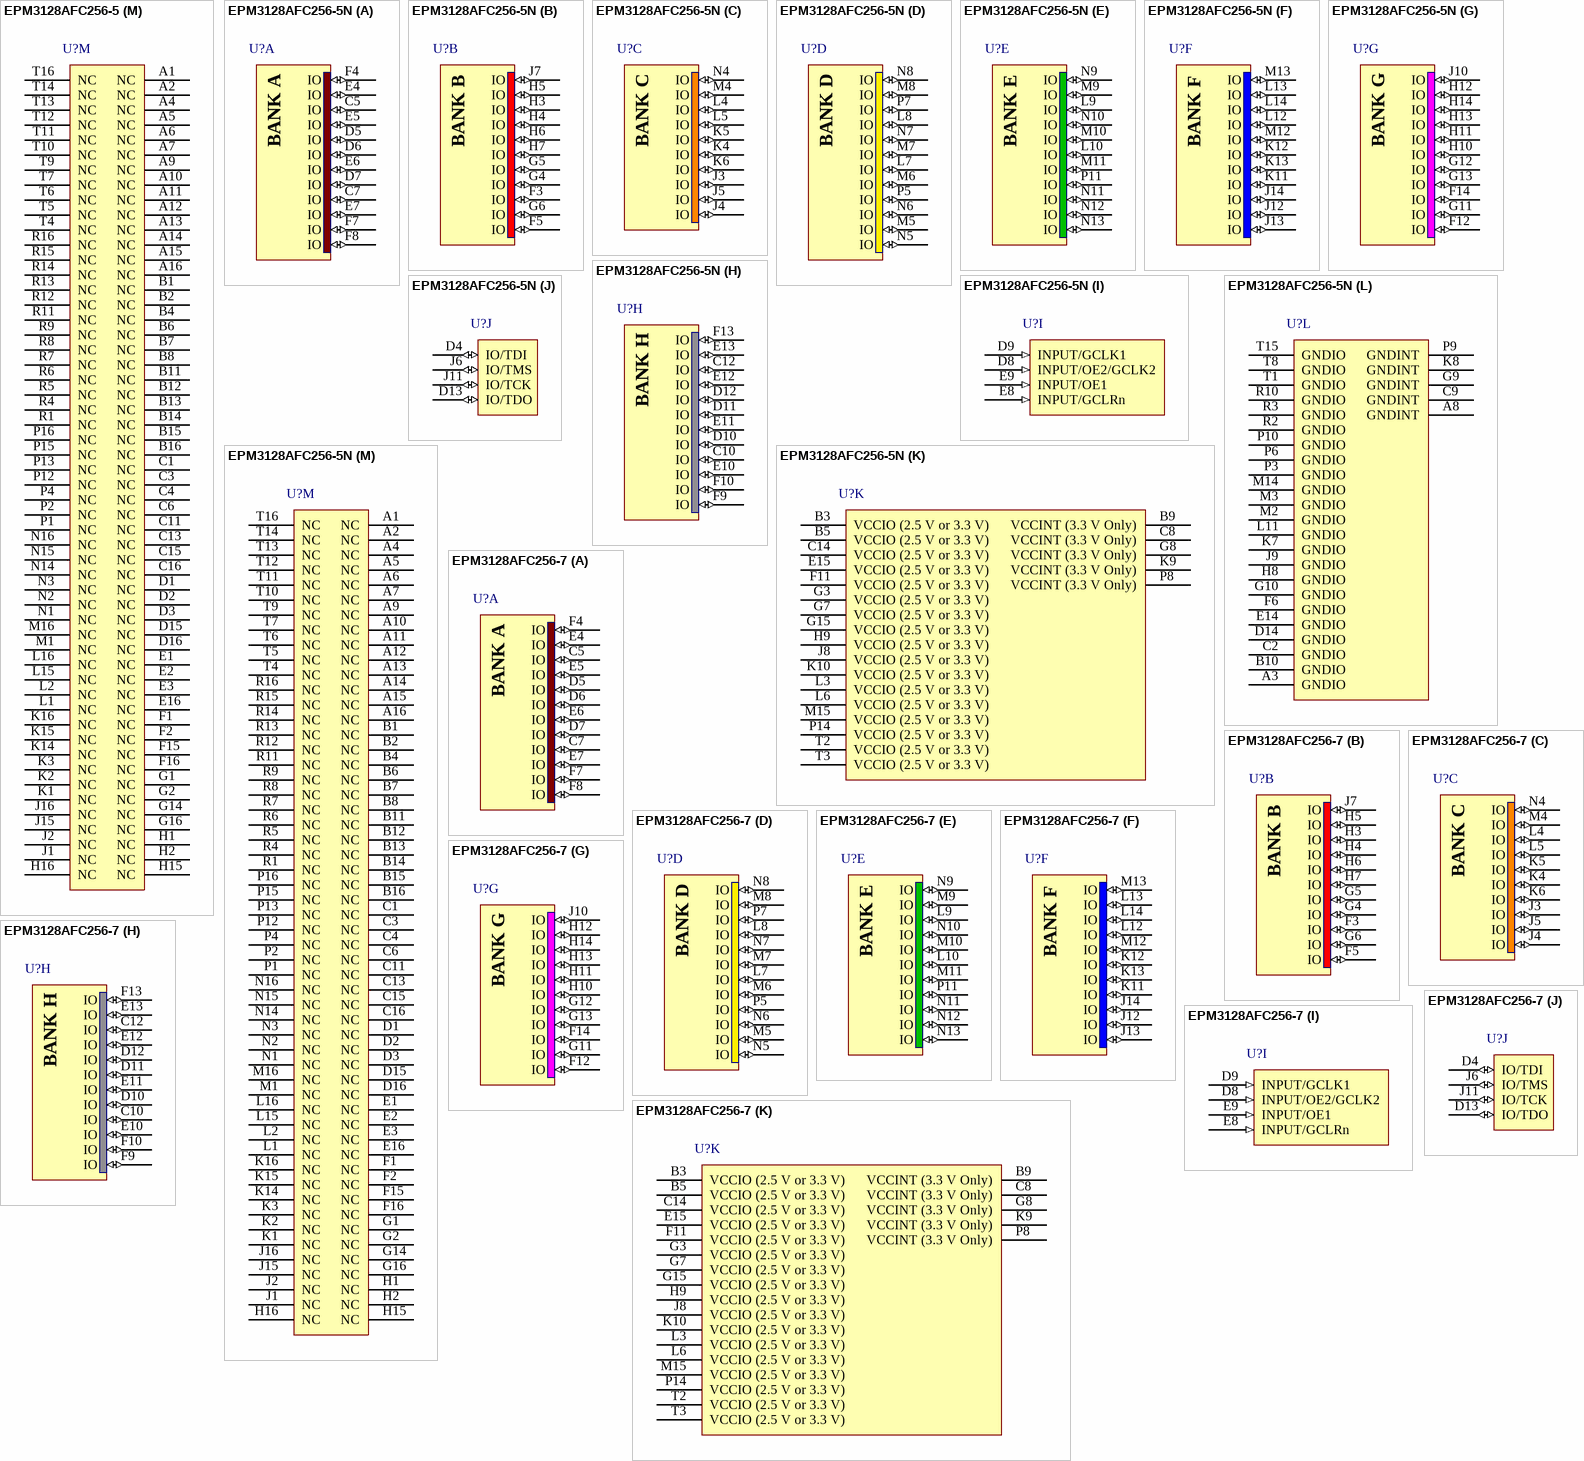
[diagram p12: symbols EPM3128AFC256-5 to EPM3128AFC256-7]

## EPM3128AFC256-5
designator U?
MAX 3128A 3.3V CPLD, 98 IOs, 256-Pin FineLine BGA, Commercial Temperature, Speed Grade 5; Published: 17-Sep-2003; LatestRevisionDate: 13-Apr-2006; LatestRevisionNote: IPC-7351 Footprint Added.; DatasheetVersion: ver3.5, Jun-2006; PackageVersion: ver14.3, Jul-2006; PackageReference: FBGA256; Publisher: Altium Limited; PackageDescription: 256-Ball FineLine Ball Grid Array (FBGA256) - Option 1; Code_JEDEC: MS-034-AAF-1; Code_IPC: BGA100P16X16-256; ComponentLink1Description: Manufacturer Link; ComponentLink1URL: http://www.altera.com/products/devices/max3k/m3k-index.html; ComponentLink2Description: Datasheet; ComponentLink2URL: http://www.altera.com/literature/ds/m3000a.pdf; ComponentLink3Description: Packaging Specification; ComponentLink3URL: http://www.altera.com/literature/ds/dspkg.pdf
footprint FBGA256 (BGA, 256-Leads, Body 17x17mm, Pitch 1mm)
3D model EPM3128A-FBGA256 (256-Ball FineLine Ball Grid Array (FBGA256) - Option 1)
signal-integrity model max3ka (MAX 3000A)
part A pins: C5 IO (io), C7 IO (io), D5 IO (io), D6 IO (io), D7 IO (io), E4 IO (io), E5 IO (io), E6 IO (io), E7 IO (io), F4 IO (io), F7 IO (io), F8 IO (io)
part B pins: F3 IO (io), F5 IO (io), G4 IO (io), G5 IO (io), G6 IO (io), H3 IO (io), H4 IO (io), H5 IO (io), H6 IO (io), H7 IO (io), J7 IO (io)
part C pins: J3 IO (io), J4 IO (io), J5 IO (io), K4 IO (io), K5 IO (io), K6 IO (io), L4 IO (io), L5 IO (io), M4 IO (io), N4 IO (io)
part D pins: L7 IO (io), L8 IO (io), M5 IO (io), M6 IO (io), M7 IO (io), M8 IO (io), N5 IO (io), N6 IO (io), N7 IO (io), N8 IO (io), P5 IO (io), P7 IO (io)
part E pins: L9 IO (io), L10 IO (io), M9 IO (io), M10 IO (io), M11 IO (io), N9 IO (io), N10 IO (io), N11 IO (io), N12 IO (io), N13 IO (io), P11 IO (io)
part F pins: J12 IO (io), J13 IO (io), J14 IO (io), K11 IO (io), K12 IO (io), K13 IO (io), L12 IO (io), L13 IO (io), L14 IO (io), M12 IO (io), M13 IO (io)
part G pins: F12 IO (io), F14 IO (io), G11 IO (io), G12 IO (io), G13 IO (io), H10 IO (io), H11 IO (io), H12 IO (io), H13 IO (io), H14 IO (io), J10 IO (io)
part H pins: C10 IO (io), C12 IO (io), D10 IO (io), D11 IO (io), D12 IO (io), E10 IO (io), E11 IO (io), E12 IO (io), E13 IO (io), F9 IO (io), F10 IO (io), F13 IO (io)
part I pins: D8 INPUT/OE2/GCLK2 (in), D9 INPUT/GCLK1 (in), E8 INPUT/GCLRn (in), E9 INPUT/OE1 (in)
part J pins: D4 IO/TDI (io), D13 IO/TDO (io), J6 IO/TMS (io), J11 IO/TCK (io)
part K pins: B3 VCCIO (2.5 V or 3.3 V) (power), B5 VCCIO (2.5 V or 3.3 V) (power), B9 VCCINT (3.3 V Only) (power), C8 VCCINT (3.3 V Only) (power), C14 VCCIO (2.5 V or 3.3 V) (power), E15 VCCIO (2.5 V or 3.3 V) (power), F11 VCCIO (2.5 V or 3.3 V) (power), G3 VCCIO (2.5 V or 3.3 V) (power), G7 VCCIO (2.5 V or 3.3 V) (power), G8 VCCINT (3.3 V Only) (power), G15 VCCIO (2.5 V or 3.3 V) (power), H9 VCCIO (2.5 V or 3.3 V) (power), J8 VCCIO (2.5 V or 3.3 V) (power), K9 VCCINT (3.3 V Only) (power), K10 VCCIO (2.5 V or 3.3 V) (power), L3 VCCIO (2.5 V or 3.3 V) (power), L6 VCCIO (2.5 V or 3.3 V) (power), M15 VCCIO (2.5 V or 3.3 V) (power), P8 VCCINT (3.3 V Only) (power), P14 VCCIO (2.5 V or 3.3 V) (power), T2 VCCIO (2.5 V or 3.3 V) (power), T3 VCCIO (2.5 V or 3.3 V) (power)
part L pins: A3 GNDIO (power), A8 GNDINT (power), B10 GNDIO (power), C2 GNDIO (power), C9 GNDINT (power), D14 GNDIO (power), E14 GNDIO (power), F6 GNDIO (power), G9 GNDINT (power), G10 GNDIO (power), H8 GNDIO (power), J9 GNDIO (power), K7 GNDIO (power), K8 GNDINT (power), L11 GNDIO (power), M2 GNDIO (power), M3 GNDIO (power), M14 GNDIO (power), P3 GNDIO (power), P6 GNDIO (power), P9 GNDINT (power), P10 GNDIO (power), R2 GNDIO (power), R3 GNDIO (power), R10 GNDIO (power), T1 GNDIO (power), T8 GNDIO (power), T15 GNDIO (power)
part M pins: A1 NC, A2 NC, A4 NC, A5 NC, A6 NC, A7 NC, A9 NC, A10 NC, A11 NC, A12 NC, A13 NC, A14 NC, A15 NC, A16 NC, B1 NC, B2 NC, B4 NC, B6 NC, B7 NC, B8 NC, B11 NC, B12 NC, B13 NC, B14 NC, B15 NC, B16 NC, C1 NC, C3 NC, C4 NC, C6 NC, C11 NC, C13 NC, C15 NC, C16 NC, D1 NC, D2 NC, D3 NC, D15 NC, D16 NC, E1 NC, E2 NC, E3 NC, E16 NC, F1 NC, F2 NC, F15 NC, F16 NC, G1 NC, G2 NC, G14 NC, G16 NC, H1 NC, H2 NC, H15 NC, H16 NC, J1 NC, J2 NC, J15 NC, J16 NC, K1 NC, K2 NC, K3 NC, K14 NC, K15 NC, K16 NC, L1 NC, L2 NC, L15 NC, L16 NC, M1 NC, M16 NC, N1 NC, N2 NC, N3 NC, N14 NC, N15 NC, N16 NC, P1 NC, P2 NC, P4 NC, P12 NC, P13 NC, P15 NC, P16 NC, R1 NC, R4 NC, R5 NC, R6 NC, R7 NC, R8 NC, R9 NC, R11 NC, R12 NC, R13 NC, R14 NC, R15 NC, R16 NC, T4 NC, T5 NC, T6 NC, T7 NC, T9 NC, T10 NC, T11 NC, T12 NC, T13 NC, T14 NC, T16 NC
part A text: BANK A
part B text: BANK B
part C text: BANK C
part D text: BANK D
part E text: BANK E
part F text: BANK F
part G text: BANK G
part H text: BANK H

## EPM3128AFC256-5N
designator U?
MAX 3128A 3.3V CPLD, 98 IOs, 256-Pin FineLine BGA, Commercial Temperature, Speed Grade 5, Pb-Free; Published: 18-Aug-2005; LatestRevisionDate: 13-Apr-2006; LatestRevisionNote: IPC-7351 Footprint Added.; DatasheetVersion: ver3.5, Jun-2006; PackageVersion: ver14.3, Jul-2006; PackageReference: FBGA256; Publisher: Altium Limited; PackageDescription: 256-Ball FineLine Ball Grid Array (FBGA256) - Option 1; Code_JEDEC: MS-034-AAF-1; Code_IPC: BGA100P16X16-256; ComponentLink1Description: Manufacturer Link; ComponentLink1URL: http://www.altera.com/products/devices/max3k/m3k-index.html; ComponentLink2Description: Datasheet; ComponentLink2URL: http://www.altera.com/literature/ds/m3000a.pdf; ComponentLink3Description: Packaging Specification; ComponentLink3URL: http://www.altera.com/literature/ds/dspkg.pdf
footprint FBGA256 (BGA, 256-Leads, Body 17x17mm, Pitch 1mm)
3D model EPM3128A-FBGA256 (256-Ball FineLine Ball Grid Array (FBGA256) - Option 1)
signal-integrity model max3ka (MAX 3000A)
part A pins: C5 IO (io), C7 IO (io), D5 IO (io), D6 IO (io), D7 IO (io), E4 IO (io), E5 IO (io), E6 IO (io), E7 IO (io), F4 IO (io), F7 IO (io), F8 IO (io)
part B pins: F3 IO (io), F5 IO (io), G4 IO (io), G5 IO (io), G6 IO (io), H3 IO (io), H4 IO (io), H5 IO (io), H6 IO (io), H7 IO (io), J7 IO (io)
part C pins: J3 IO (io), J4 IO (io), J5 IO (io), K4 IO (io), K5 IO (io), K6 IO (io), L4 IO (io), L5 IO (io), M4 IO (io), N4 IO (io)
part D pins: L7 IO (io), L8 IO (io), M5 IO (io), M6 IO (io), M7 IO (io), M8 IO (io), N5 IO (io), N6 IO (io), N7 IO (io), N8 IO (io), P5 IO (io), P7 IO (io)
part E pins: L9 IO (io), L10 IO (io), M9 IO (io), M10 IO (io), M11 IO (io), N9 IO (io), N10 IO (io), N11 IO (io), N12 IO (io), N13 IO (io), P11 IO (io)
part F pins: J12 IO (io), J13 IO (io), J14 IO (io), K11 IO (io), K12 IO (io), K13 IO (io), L12 IO (io), L13 IO (io), L14 IO (io), M12 IO (io), M13 IO (io)
part G pins: F12 IO (io), F14 IO (io), G11 IO (io), G12 IO (io), G13 IO (io), H10 IO (io), H11 IO (io), H12 IO (io), H13 IO (io), H14 IO (io), J10 IO (io)
part H pins: C10 IO (io), C12 IO (io), D10 IO (io), D11 IO (io), D12 IO (io), E10 IO (io), E11 IO (io), E12 IO (io), E13 IO (io), F9 IO (io), F10 IO (io), F13 IO (io)
part I pins: D8 INPUT/OE2/GCLK2 (in), D9 INPUT/GCLK1 (in), E8 INPUT/GCLRn (in), E9 INPUT/OE1 (in)
part J pins: D4 IO/TDI (io), D13 IO/TDO (io), J6 IO/TMS (io), J11 IO/TCK (io)
part K pins: B3 VCCIO (2.5 V or 3.3 V) (power), B5 VCCIO (2.5 V or 3.3 V) (power), B9 VCCINT (3.3 V Only) (power), C8 VCCINT (3.3 V Only) (power), C14 VCCIO (2.5 V or 3.3 V) (power), E15 VCCIO (2.5 V or 3.3 V) (power), F11 VCCIO (2.5 V or 3.3 V) (power), G3 VCCIO (2.5 V or 3.3 V) (power), G7 VCCIO (2.5 V or 3.3 V) (power), G8 VCCINT (3.3 V Only) (power), G15 VCCIO (2.5 V or 3.3 V) (power), H9 VCCIO (2.5 V or 3.3 V) (power), J8 VCCIO (2.5 V or 3.3 V) (power), K9 VCCINT (3.3 V Only) (power), K10 VCCIO (2.5 V or 3.3 V) (power), L3 VCCIO (2.5 V or 3.3 V) (power), L6 VCCIO (2.5 V or 3.3 V) (power), M15 VCCIO (2.5 V or 3.3 V) (power), P8 VCCINT (3.3 V Only) (power), P14 VCCIO (2.5 V or 3.3 V) (power), T2 VCCIO (2.5 V or 3.3 V) (power), T3 VCCIO (2.5 V or 3.3 V) (power)
part L pins: A3 GNDIO (power), A8 GNDINT (power), B10 GNDIO (power), C2 GNDIO (power), C9 GNDINT (power), D14 GNDIO (power), E14 GNDIO (power), F6 GNDIO (power), G9 GNDINT (power), G10 GNDIO (power), H8 GNDIO (power), J9 GNDIO (power), K7 GNDIO (power), K8 GNDINT (power), L11 GNDIO (power), M2 GNDIO (power), M3 GNDIO (power), M14 GNDIO (power), P3 GNDIO (power), P6 GNDIO (power), P9 GNDINT (power), P10 GNDIO (power), R2 GNDIO (power), R3 GNDIO (power), R10 GNDIO (power), T1 GNDIO (power), T8 GNDIO (power), T15 GNDIO (power)
part M pins: A1 NC, A2 NC, A4 NC, A5 NC, A6 NC, A7 NC, A9 NC, A10 NC, A11 NC, A12 NC, A13 NC, A14 NC, A15 NC, A16 NC, B1 NC, B2 NC, B4 NC, B6 NC, B7 NC, B8 NC, B11 NC, B12 NC, B13 NC, B14 NC, B15 NC, B16 NC, C1 NC, C3 NC, C4 NC, C6 NC, C11 NC, C13 NC, C15 NC, C16 NC, D1 NC, D2 NC, D3 NC, D15 NC, D16 NC, E1 NC, E2 NC, E3 NC, E16 NC, F1 NC, F2 NC, F15 NC, F16 NC, G1 NC, G2 NC, G14 NC, G16 NC, H1 NC, H2 NC, H15 NC, H16 NC, J1 NC, J2 NC, J15 NC, J16 NC, K1 NC, K2 NC, K3 NC, K14 NC, K15 NC, K16 NC, L1 NC, L2 NC, L15 NC, L16 NC, M1 NC, M16 NC, N1 NC, N2 NC, N3 NC, N14 NC, N15 NC, N16 NC, P1 NC, P2 NC, P4 NC, P12 NC, P13 NC, P15 NC, P16 NC, R1 NC, R4 NC, R5 NC, R6 NC, R7 NC, R8 NC, R9 NC, R11 NC, R12 NC, R13 NC, R14 NC, R15 NC, R16 NC, T4 NC, T5 NC, T6 NC, T7 NC, T9 NC, T10 NC, T11 NC, T12 NC, T13 NC, T14 NC, T16 NC
part A text: BANK A
part B text: BANK B
part C text: BANK C
part D text: BANK D
part E text: BANK E
part F text: BANK F
part G text: BANK G
part H text: BANK H

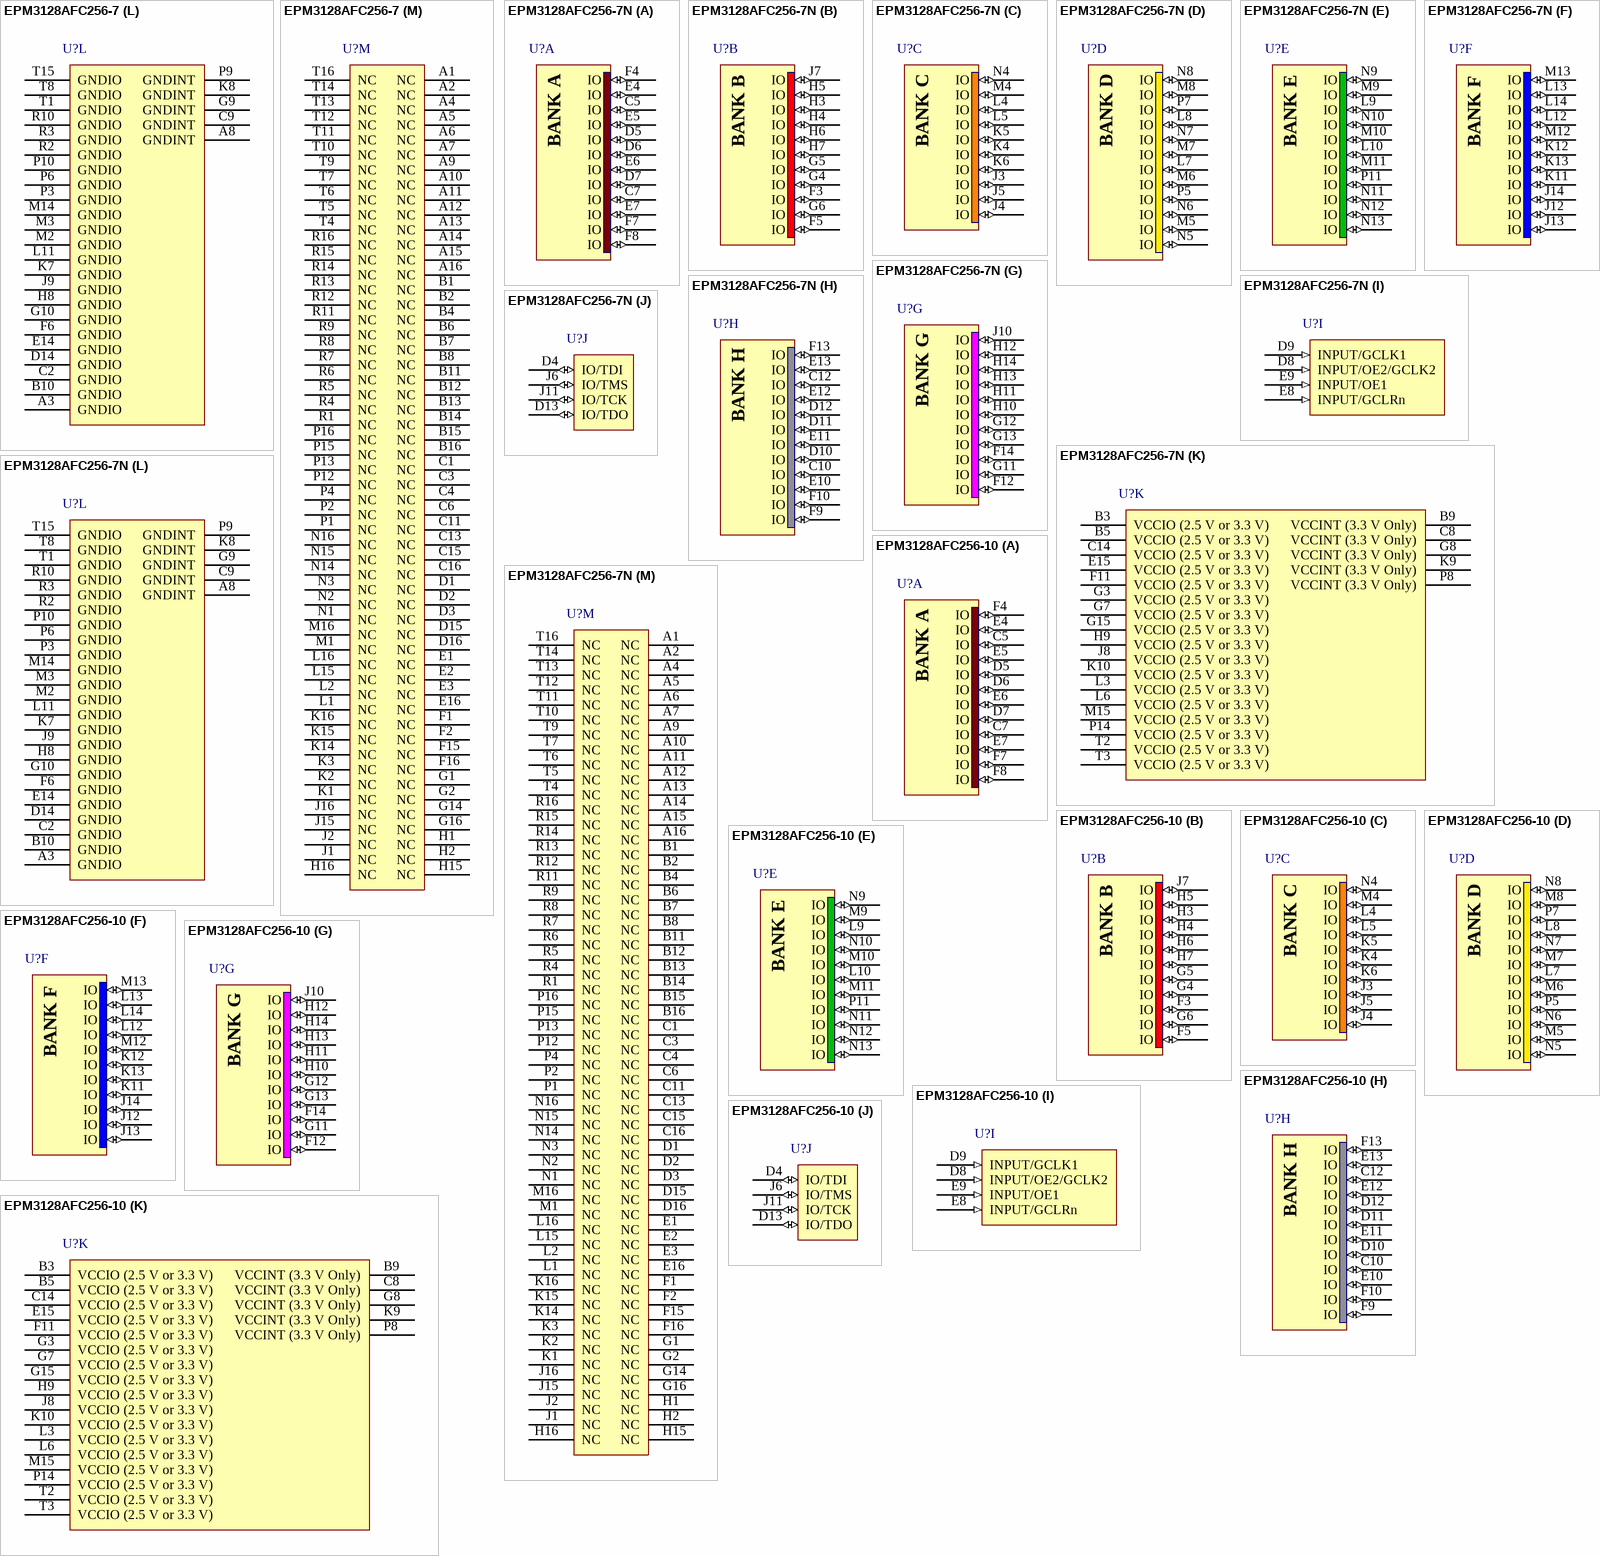
[diagram p13: symbols EPM3128AFC256-7 to EPM3128AFC256-10]

## EPM3128AFC256-7
designator U?
MAX 3128A 3.3V CPLD, 98 IOs, 256-Pin FineLine BGA, Commercial Temperature, Speed Grade 7; Published: 17-Sep-2003; LatestRevisionDate: 13-Apr-2006; LatestRevisionNote: IPC-7351 Footprint Added.; DatasheetVersion: ver3.5, Jun-2006; PackageVersion: ver14.3, Jul-2006; PackageReference: FBGA256; Publisher: Altium Limited; PackageDescription: 256-Ball FineLine Ball Grid Array (FBGA256) - Option 1; Code_JEDEC: MS-034-AAF-1; Code_IPC: BGA100P16X16-256; ComponentLink1Description: Manufacturer Link; ComponentLink1URL: http://www.altera.com/products/devices/max3k/m3k-index.html; ComponentLink2Description: Datasheet; ComponentLink2URL: http://www.altera.com/literature/ds/m3000a.pdf; ComponentLink3Description: Packaging Specification; ComponentLink3URL: http://www.altera.com/literature/ds/dspkg.pdf
footprint FBGA256 (BGA, 256-Leads, Body 17x17mm, Pitch 1mm)
3D model EPM3128A-FBGA256 (256-Ball FineLine Ball Grid Array (FBGA256) - Option 1)
signal-integrity model max3ka (MAX 3000A)
part A pins: C5 IO (io), C7 IO (io), D5 IO (io), D6 IO (io), D7 IO (io), E4 IO (io), E5 IO (io), E6 IO (io), E7 IO (io), F4 IO (io), F7 IO (io), F8 IO (io)
part B pins: F3 IO (io), F5 IO (io), G4 IO (io), G5 IO (io), G6 IO (io), H3 IO (io), H4 IO (io), H5 IO (io), H6 IO (io), H7 IO (io), J7 IO (io)
part C pins: J3 IO (io), J4 IO (io), J5 IO (io), K4 IO (io), K5 IO (io), K6 IO (io), L4 IO (io), L5 IO (io), M4 IO (io), N4 IO (io)
part D pins: L7 IO (io), L8 IO (io), M5 IO (io), M6 IO (io), M7 IO (io), M8 IO (io), N5 IO (io), N6 IO (io), N7 IO (io), N8 IO (io), P5 IO (io), P7 IO (io)
part E pins: L9 IO (io), L10 IO (io), M9 IO (io), M10 IO (io), M11 IO (io), N9 IO (io), N10 IO (io), N11 IO (io), N12 IO (io), N13 IO (io), P11 IO (io)
part F pins: J12 IO (io), J13 IO (io), J14 IO (io), K11 IO (io), K12 IO (io), K13 IO (io), L12 IO (io), L13 IO (io), L14 IO (io), M12 IO (io), M13 IO (io)
part G pins: F12 IO (io), F14 IO (io), G11 IO (io), G12 IO (io), G13 IO (io), H10 IO (io), H11 IO (io), H12 IO (io), H13 IO (io), H14 IO (io), J10 IO (io)
part H pins: C10 IO (io), C12 IO (io), D10 IO (io), D11 IO (io), D12 IO (io), E10 IO (io), E11 IO (io), E12 IO (io), E13 IO (io), F9 IO (io), F10 IO (io), F13 IO (io)
part I pins: D8 INPUT/OE2/GCLK2 (in), D9 INPUT/GCLK1 (in), E8 INPUT/GCLRn (in), E9 INPUT/OE1 (in)
part J pins: D4 IO/TDI (io), D13 IO/TDO (io), J6 IO/TMS (io), J11 IO/TCK (io)
part K pins: B3 VCCIO (2.5 V or 3.3 V) (power), B5 VCCIO (2.5 V or 3.3 V) (power), B9 VCCINT (3.3 V Only) (power), C8 VCCINT (3.3 V Only) (power), C14 VCCIO (2.5 V or 3.3 V) (power), E15 VCCIO (2.5 V or 3.3 V) (power), F11 VCCIO (2.5 V or 3.3 V) (power), G3 VCCIO (2.5 V or 3.3 V) (power), G7 VCCIO (2.5 V or 3.3 V) (power), G8 VCCINT (3.3 V Only) (power), G15 VCCIO (2.5 V or 3.3 V) (power), H9 VCCIO (2.5 V or 3.3 V) (power), J8 VCCIO (2.5 V or 3.3 V) (power), K9 VCCINT (3.3 V Only) (power), K10 VCCIO (2.5 V or 3.3 V) (power), L3 VCCIO (2.5 V or 3.3 V) (power), L6 VCCIO (2.5 V or 3.3 V) (power), M15 VCCIO (2.5 V or 3.3 V) (power), P8 VCCINT (3.3 V Only) (power), P14 VCCIO (2.5 V or 3.3 V) (power), T2 VCCIO (2.5 V or 3.3 V) (power), T3 VCCIO (2.5 V or 3.3 V) (power)
part L pins: A3 GNDIO (power), A8 GNDINT (power), B10 GNDIO (power), C2 GNDIO (power), C9 GNDINT (power), D14 GNDIO (power), E14 GNDIO (power), F6 GNDIO (power), G9 GNDINT (power), G10 GNDIO (power), H8 GNDIO (power), J9 GNDIO (power), K7 GNDIO (power), K8 GNDINT (power), L11 GNDIO (power), M2 GNDIO (power), M3 GNDIO (power), M14 GNDIO (power), P3 GNDIO (power), P6 GNDIO (power), P9 GNDINT (power), P10 GNDIO (power), R2 GNDIO (power), R3 GNDIO (power), R10 GNDIO (power), T1 GNDIO (power), T8 GNDIO (power), T15 GNDIO (power)
part M pins: A1 NC, A2 NC, A4 NC, A5 NC, A6 NC, A7 NC, A9 NC, A10 NC, A11 NC, A12 NC, A13 NC, A14 NC, A15 NC, A16 NC, B1 NC, B2 NC, B4 NC, B6 NC, B7 NC, B8 NC, B11 NC, B12 NC, B13 NC, B14 NC, B15 NC, B16 NC, C1 NC, C3 NC, C4 NC, C6 NC, C11 NC, C13 NC, C15 NC, C16 NC, D1 NC, D2 NC, D3 NC, D15 NC, D16 NC, E1 NC, E2 NC, E3 NC, E16 NC, F1 NC, F2 NC, F15 NC, F16 NC, G1 NC, G2 NC, G14 NC, G16 NC, H1 NC, H2 NC, H15 NC, H16 NC, J1 NC, J2 NC, J15 NC, J16 NC, K1 NC, K2 NC, K3 NC, K14 NC, K15 NC, K16 NC, L1 NC, L2 NC, L15 NC, L16 NC, M1 NC, M16 NC, N1 NC, N2 NC, N3 NC, N14 NC, N15 NC, N16 NC, P1 NC, P2 NC, P4 NC, P12 NC, P13 NC, P15 NC, P16 NC, R1 NC, R4 NC, R5 NC, R6 NC, R7 NC, R8 NC, R9 NC, R11 NC, R12 NC, R13 NC, R14 NC, R15 NC, R16 NC, T4 NC, T5 NC, T6 NC, T7 NC, T9 NC, T10 NC, T11 NC, T12 NC, T13 NC, T14 NC, T16 NC
part A text: BANK A
part B text: BANK B
part C text: BANK C
part D text: BANK D
part E text: BANK E
part F text: BANK F
part G text: BANK G
part H text: BANK H

## EPM3128AFC256-7N
designator U?
MAX 3128A 3.3V CPLD, 98 IOs, 256-Pin FineLine BGA, Commercial Temperature, Speed Grade 7, Pb-Free; Published: 18-Aug-2005; LatestRevisionDate: 13-Apr-2006; LatestRevisionNote: IPC-7351 Footprint Added.; DatasheetVersion: ver3.5, Jun-2006; PackageVersion: ver14.3, Jul-2006; PackageReference: FBGA256; Publisher: Altium Limited; PackageDescription: 256-Ball FineLine Ball Grid Array (FBGA256) - Option 1; Code_JEDEC: MS-034-AAF-1; Code_IPC: BGA100P16X16-256; ComponentLink1Description: Manufacturer Link; ComponentLink1URL: http://www.altera.com/products/devices/max3k/m3k-index.html; ComponentLink2Description: Datasheet; ComponentLink2URL: http://www.altera.com/literature/ds/m3000a.pdf; ComponentLink3Description: Packaging Specification; ComponentLink3URL: http://www.altera.com/literature/ds/dspkg.pdf
footprint FBGA256 (BGA, 256-Leads, Body 17x17mm, Pitch 1mm)
3D model EPM3128A-FBGA256 (256-Ball FineLine Ball Grid Array (FBGA256) - Option 1)
signal-integrity model max3ka (MAX 3000A)
part A pins: C5 IO (io), C7 IO (io), D5 IO (io), D6 IO (io), D7 IO (io), E4 IO (io), E5 IO (io), E6 IO (io), E7 IO (io), F4 IO (io), F7 IO (io), F8 IO (io)
part B pins: F3 IO (io), F5 IO (io), G4 IO (io), G5 IO (io), G6 IO (io), H3 IO (io), H4 IO (io), H5 IO (io), H6 IO (io), H7 IO (io), J7 IO (io)
part C pins: J3 IO (io), J4 IO (io), J5 IO (io), K4 IO (io), K5 IO (io), K6 IO (io), L4 IO (io), L5 IO (io), M4 IO (io), N4 IO (io)
part D pins: L7 IO (io), L8 IO (io), M5 IO (io), M6 IO (io), M7 IO (io), M8 IO (io), N5 IO (io), N6 IO (io), N7 IO (io), N8 IO (io), P5 IO (io), P7 IO (io)
part E pins: L9 IO (io), L10 IO (io), M9 IO (io), M10 IO (io), M11 IO (io), N9 IO (io), N10 IO (io), N11 IO (io), N12 IO (io), N13 IO (io), P11 IO (io)
part F pins: J12 IO (io), J13 IO (io), J14 IO (io), K11 IO (io), K12 IO (io), K13 IO (io), L12 IO (io), L13 IO (io), L14 IO (io), M12 IO (io), M13 IO (io)
part G pins: F12 IO (io), F14 IO (io), G11 IO (io), G12 IO (io), G13 IO (io), H10 IO (io), H11 IO (io), H12 IO (io), H13 IO (io), H14 IO (io), J10 IO (io)
part H pins: C10 IO (io), C12 IO (io), D10 IO (io), D11 IO (io), D12 IO (io), E10 IO (io), E11 IO (io), E12 IO (io), E13 IO (io), F9 IO (io), F10 IO (io), F13 IO (io)
part I pins: D8 INPUT/OE2/GCLK2 (in), D9 INPUT/GCLK1 (in), E8 INPUT/GCLRn (in), E9 INPUT/OE1 (in)
part J pins: D4 IO/TDI (io), D13 IO/TDO (io), J6 IO/TMS (io), J11 IO/TCK (io)
part K pins: B3 VCCIO (2.5 V or 3.3 V) (power), B5 VCCIO (2.5 V or 3.3 V) (power), B9 VCCINT (3.3 V Only) (power), C8 VCCINT (3.3 V Only) (power), C14 VCCIO (2.5 V or 3.3 V) (power), E15 VCCIO (2.5 V or 3.3 V) (power), F11 VCCIO (2.5 V or 3.3 V) (power), G3 VCCIO (2.5 V or 3.3 V) (power), G7 VCCIO (2.5 V or 3.3 V) (power), G8 VCCINT (3.3 V Only) (power), G15 VCCIO (2.5 V or 3.3 V) (power), H9 VCCIO (2.5 V or 3.3 V) (power), J8 VCCIO (2.5 V or 3.3 V) (power), K9 VCCINT (3.3 V Only) (power), K10 VCCIO (2.5 V or 3.3 V) (power), L3 VCCIO (2.5 V or 3.3 V) (power), L6 VCCIO (2.5 V or 3.3 V) (power), M15 VCCIO (2.5 V or 3.3 V) (power), P8 VCCINT (3.3 V Only) (power), P14 VCCIO (2.5 V or 3.3 V) (power), T2 VCCIO (2.5 V or 3.3 V) (power), T3 VCCIO (2.5 V or 3.3 V) (power)
part L pins: A3 GNDIO (power), A8 GNDINT (power), B10 GNDIO (power), C2 GNDIO (power), C9 GNDINT (power), D14 GNDIO (power), E14 GNDIO (power), F6 GNDIO (power), G9 GNDINT (power), G10 GNDIO (power), H8 GNDIO (power), J9 GNDIO (power), K7 GNDIO (power), K8 GNDINT (power), L11 GNDIO (power), M2 GNDIO (power), M3 GNDIO (power), M14 GNDIO (power), P3 GNDIO (power), P6 GNDIO (power), P9 GNDINT (power), P10 GNDIO (power), R2 GNDIO (power), R3 GNDIO (power), R10 GNDIO (power), T1 GNDIO (power), T8 GNDIO (power), T15 GNDIO (power)
part M pins: A1 NC, A2 NC, A4 NC, A5 NC, A6 NC, A7 NC, A9 NC, A10 NC, A11 NC, A12 NC, A13 NC, A14 NC, A15 NC, A16 NC, B1 NC, B2 NC, B4 NC, B6 NC, B7 NC, B8 NC, B11 NC, B12 NC, B13 NC, B14 NC, B15 NC, B16 NC, C1 NC, C3 NC, C4 NC, C6 NC, C11 NC, C13 NC, C15 NC, C16 NC, D1 NC, D2 NC, D3 NC, D15 NC, D16 NC, E1 NC, E2 NC, E3 NC, E16 NC, F1 NC, F2 NC, F15 NC, F16 NC, G1 NC, G2 NC, G14 NC, G16 NC, H1 NC, H2 NC, H15 NC, H16 NC, J1 NC, J2 NC, J15 NC, J16 NC, K1 NC, K2 NC, K3 NC, K14 NC, K15 NC, K16 NC, L1 NC, L2 NC, L15 NC, L16 NC, M1 NC, M16 NC, N1 NC, N2 NC, N3 NC, N14 NC, N15 NC, N16 NC, P1 NC, P2 NC, P4 NC, P12 NC, P13 NC, P15 NC, P16 NC, R1 NC, R4 NC, R5 NC, R6 NC, R7 NC, R8 NC, R9 NC, R11 NC, R12 NC, R13 NC, R14 NC, R15 NC, R16 NC, T4 NC, T5 NC, T6 NC, T7 NC, T9 NC, T10 NC, T11 NC, T12 NC, T13 NC, T14 NC, T16 NC
part A text: BANK A
part B text: BANK B
part C text: BANK C
part D text: BANK D
part E text: BANK E
part F text: BANK F
part G text: BANK G
part H text: BANK H

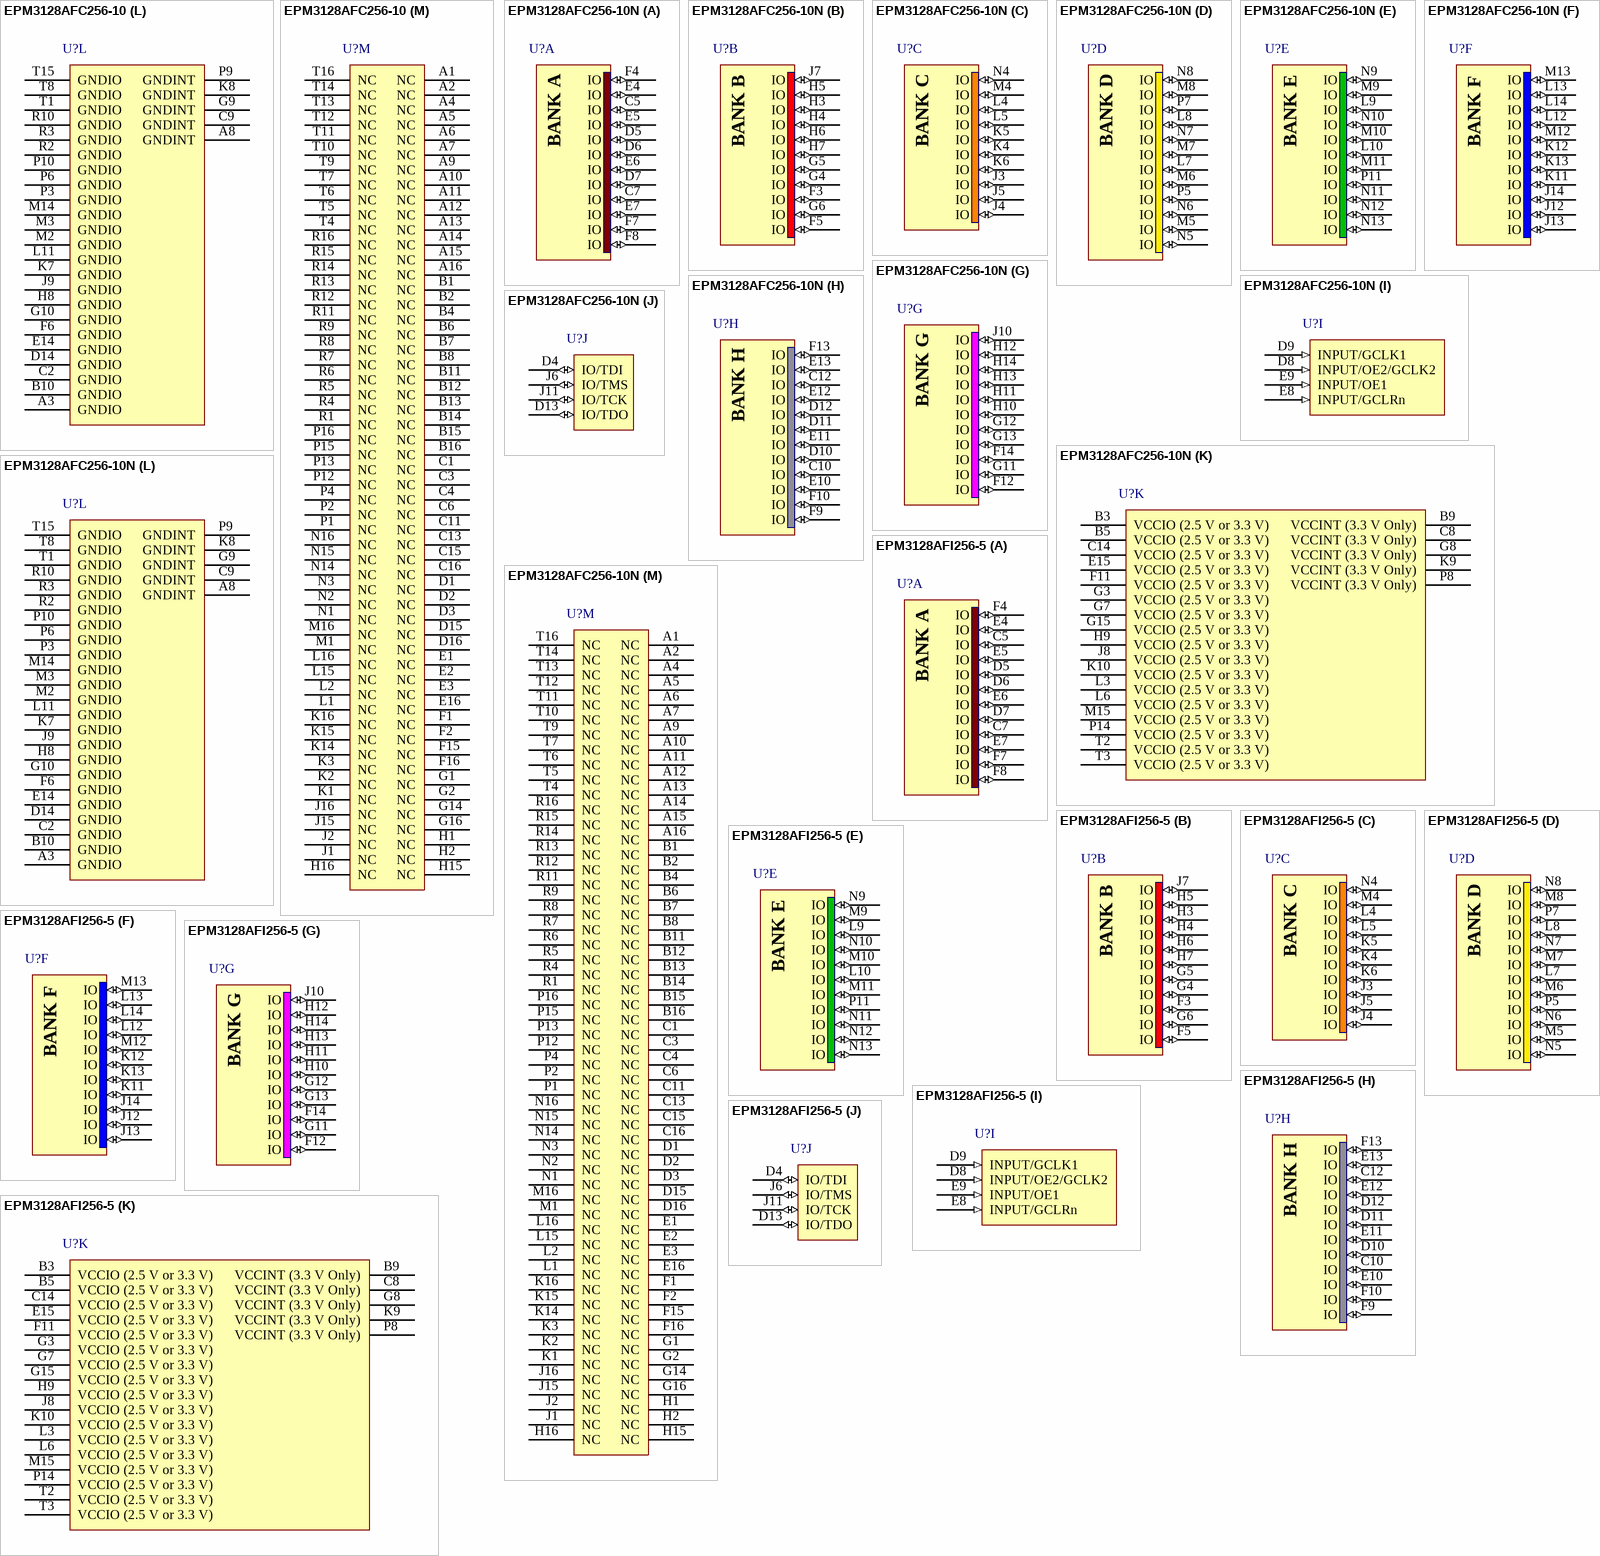
[diagram p14: symbols EPM3128AFC256-10 to EPM3128AFI256-5]